# Altium integrated library Tranzistor.IntLib: 391 symbols
Pins are listed as number, name and electrical type; pins without a type are passive.

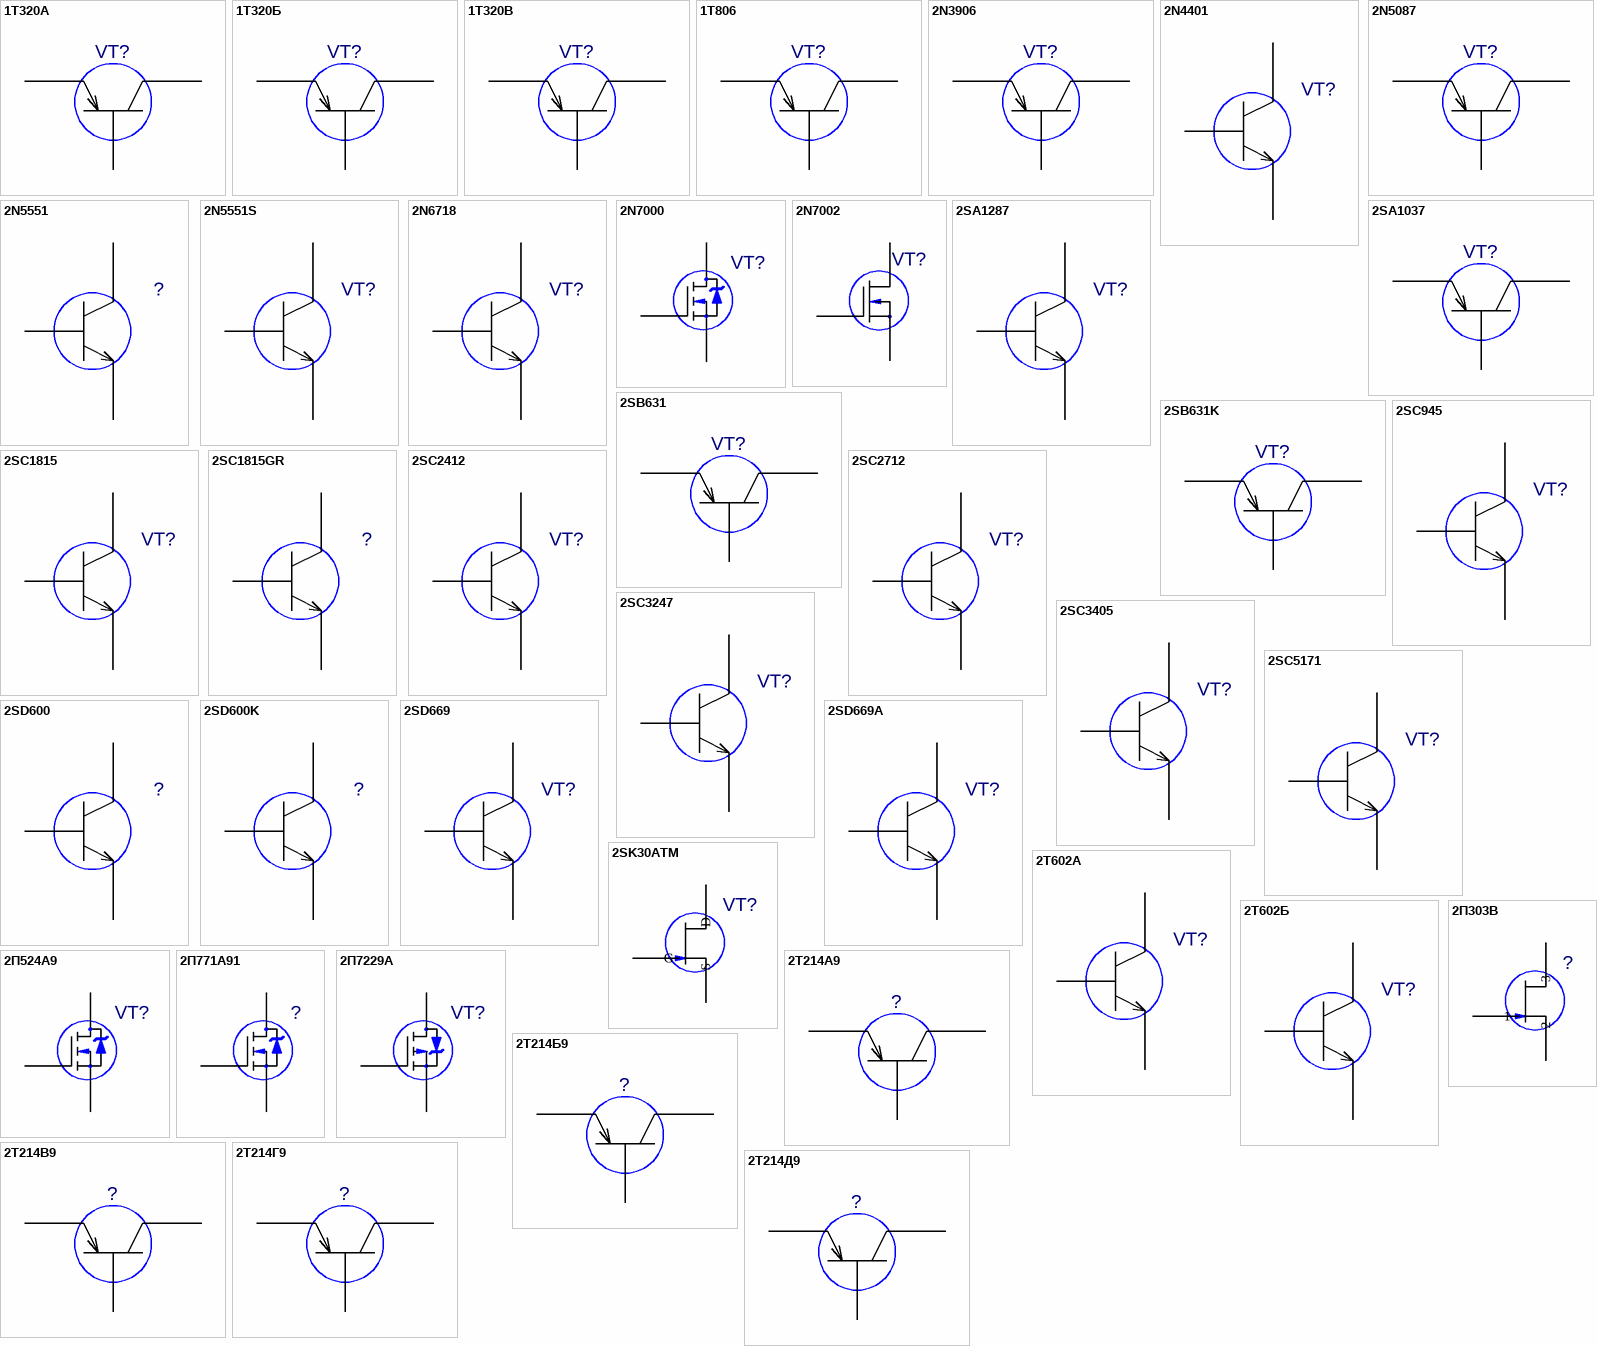
[diagram p0: symbols 1Т320А to 2Т214Д9]

## 1Т320А
designator VT?  (value not drawn)
Value: *
footprint ГТ320Б
pins: 1 E, 2 K, 3 B

## 1Т320Б
designator VT?  (value not drawn)
Value: *
footprint ГТ320Б
pins: 1 E, 2 K, 3 B

## 1Т320В
designator VT?  (value not drawn)
Value: *
footprint ГТ320Б
pins: 1 E, 2 K, 3 B

## 1Т806
designator VT?  (value not drawn)
Value: *
footprint 806A_1Т806(Primary)
pins: B, E, K

## 2N3906
designator VT?  (value not drawn)
Value: *
footprint KT26-1
pins: 1 3, 2, 3 1

## 2N4401
designator VT?  (value not drawn)
Value: *
footprint TO-92-1
pins: 1 E, 2 B, 3 K

## 2N5087
designator VT?  (value not drawn)
Value: *
footprint TO-92-3_2N5087(Primary)
pins: B, C, E

## 2N5551
designator ?  (value not drawn)
Value: *
footprint TO-92-1
pins: 1 E, 2 B, 3 K

## 2N5551S
designator VT?  (value not drawn)
Value: *
footprint SOT-23_2N5551S(Primary)
pins: 1 E, 2 B, 3 K

## 2N6718
designator VT?  (value not drawn)
Value: *
footprint TO-92-1
pins: 1 E, 2 B, 3 K

## 2N7000
designator VT?  (value not drawn)
Value: {Value}
footprint TO-92-6_2N7000(Primary)
pins: d 3, g 1, s 2

## 2N7002
designator VT?  (value not drawn)
Value: {Value}
footprint SOT-23
pins: 1 G, 2 S, 3 D

## 2SA1037
designator VT?  (value not drawn)
Value: *
footprint SOT-23
pins: 1 B, 2 E, 3 K

## 2SA1287
designator VT?  (value not drawn)
Value: *
footprint TO-92-2
pins: 1 E, 2 C, 3 B

## 2SB631
designator VT?  (value not drawn)
Value: *
footprint TO-126_2SB631(Primary)
pins: B 2, E 1, K 3

## 2SB631K
designator VT?  (value not drawn)
Value: *
footprint TO-126_2SB631K(Primary)
pins: B 2, E 1, K 3

## 2SC945
designator VT?  (value not drawn)
Value: *
footprint TO-92-2
pins: 1 E, 2 K, 3 B

## 2SC1815
designator VT?  (value not drawn)
Value: *
footprint TO-92-2
pins: 1 E, 2 C, 3 B

## 2SC1815GR
designator ?  (value not drawn)
Value: *
footprint TO-92-2
pins: 1 E, 2 K, 3 B

## 2SC2412
designator VT?  (value not drawn)
Value: *
footprint SOT-23
pins: 1 B, 2 E, 3 K

## 2SC2712
designator VT?  (value not drawn)
Value: *
footprint SOT-23
pins: 1 B, 2 E, 3 K

## 2SC3247
designator VT?  (value not drawn)
Value: *
footprint TO-92-2
pins: 1 E, 2 C, 3 B

## 2SC3405
designator VT?  (value not drawn)
Value: *
footprint DPAK
pins: 1 B, 2 K, 3 E

## 2SC5171
designator VT?  (value not drawn)
Value: *
footprint TO-220 (V)
pins: 1 B, 2 K, 3 E

## 2SD600
designator ?  (value not drawn)
Value: *
footprint TO-126_2SD600(Primary)
pins: B 2, E 1, K 3

## 2SD600K
designator ?  (value not drawn)
Value: *
footprint TO-126_2SD600K(Primary)
pins: B 2, E 1, K 3

## 2SD669
designator VT?  (value not drawn)
Value: *
footprint TO-126_2SD669(Primary)
pins: B, E, K

## 2SD669A
designator VT?  (value not drawn)
Value: *
footprint TO-126_2SD669A(Primary)
pins: B, E, K

## 2SK30ATM
designator VT?  (value not drawn)
Value: {Value}; Author: pcbdesigner.ru
footprint TO-92-6
pins: 1 S, 2 G, 3 D

## 2T602A
designator VT?  (value not drawn)
Value: *
footprint 2T602A_2T602A(Primary)
pins: B, E, K

## 2T602Б
designator VT?  (value not drawn)
Value: *
footprint 2T602A_2T602Б(Primary)
pins: B, E, K

## 2П303В
designator ?  (value not drawn)
Value: {Value}; Author: pcbdesigner.ru
footprint КП303В_2П303В(Primary)
pins: I 2, pkg hidden, S 3, Z 1

## 2П524А9
designator VT?  (value not drawn)
Value: {Value}
footprint КТ-99-1
pins: 1, 2, 3, 4 hidden

## 2П771А91
designator ?  (value not drawn)
Value: {Value}
footprint D2PAK
pins: 1, 2 3, 3 2

## 2П7229А
designator VT?  (value not drawn)
Value: {Value}
footprint TO-220 WITH TAB
pins: 1, 2 3, 3 2, 4 hidden

## 2Т214А9
designator ?  (value not drawn)
Value: *
footprint SOT-23
pins: 1 B, 2 E, 3 K

## 2Т214Б9
designator ?  (value not drawn)
Value: *
footprint SOT-23
pins: 1 B, 2 E, 3 K

## 2Т214В9
designator ?  (value not drawn)
Value: *
footprint SOT-23
pins: 1 B, 2 E, 3 K

## 2Т214Г9
designator ?  (value not drawn)
Value: *
footprint SOT-23
pins: 1 B, 2 E, 3 K

## 2Т214Д9
designator ?  (value not drawn)
Value: *
footprint SOT-23
pins: 1 B, 2 E, 3 K

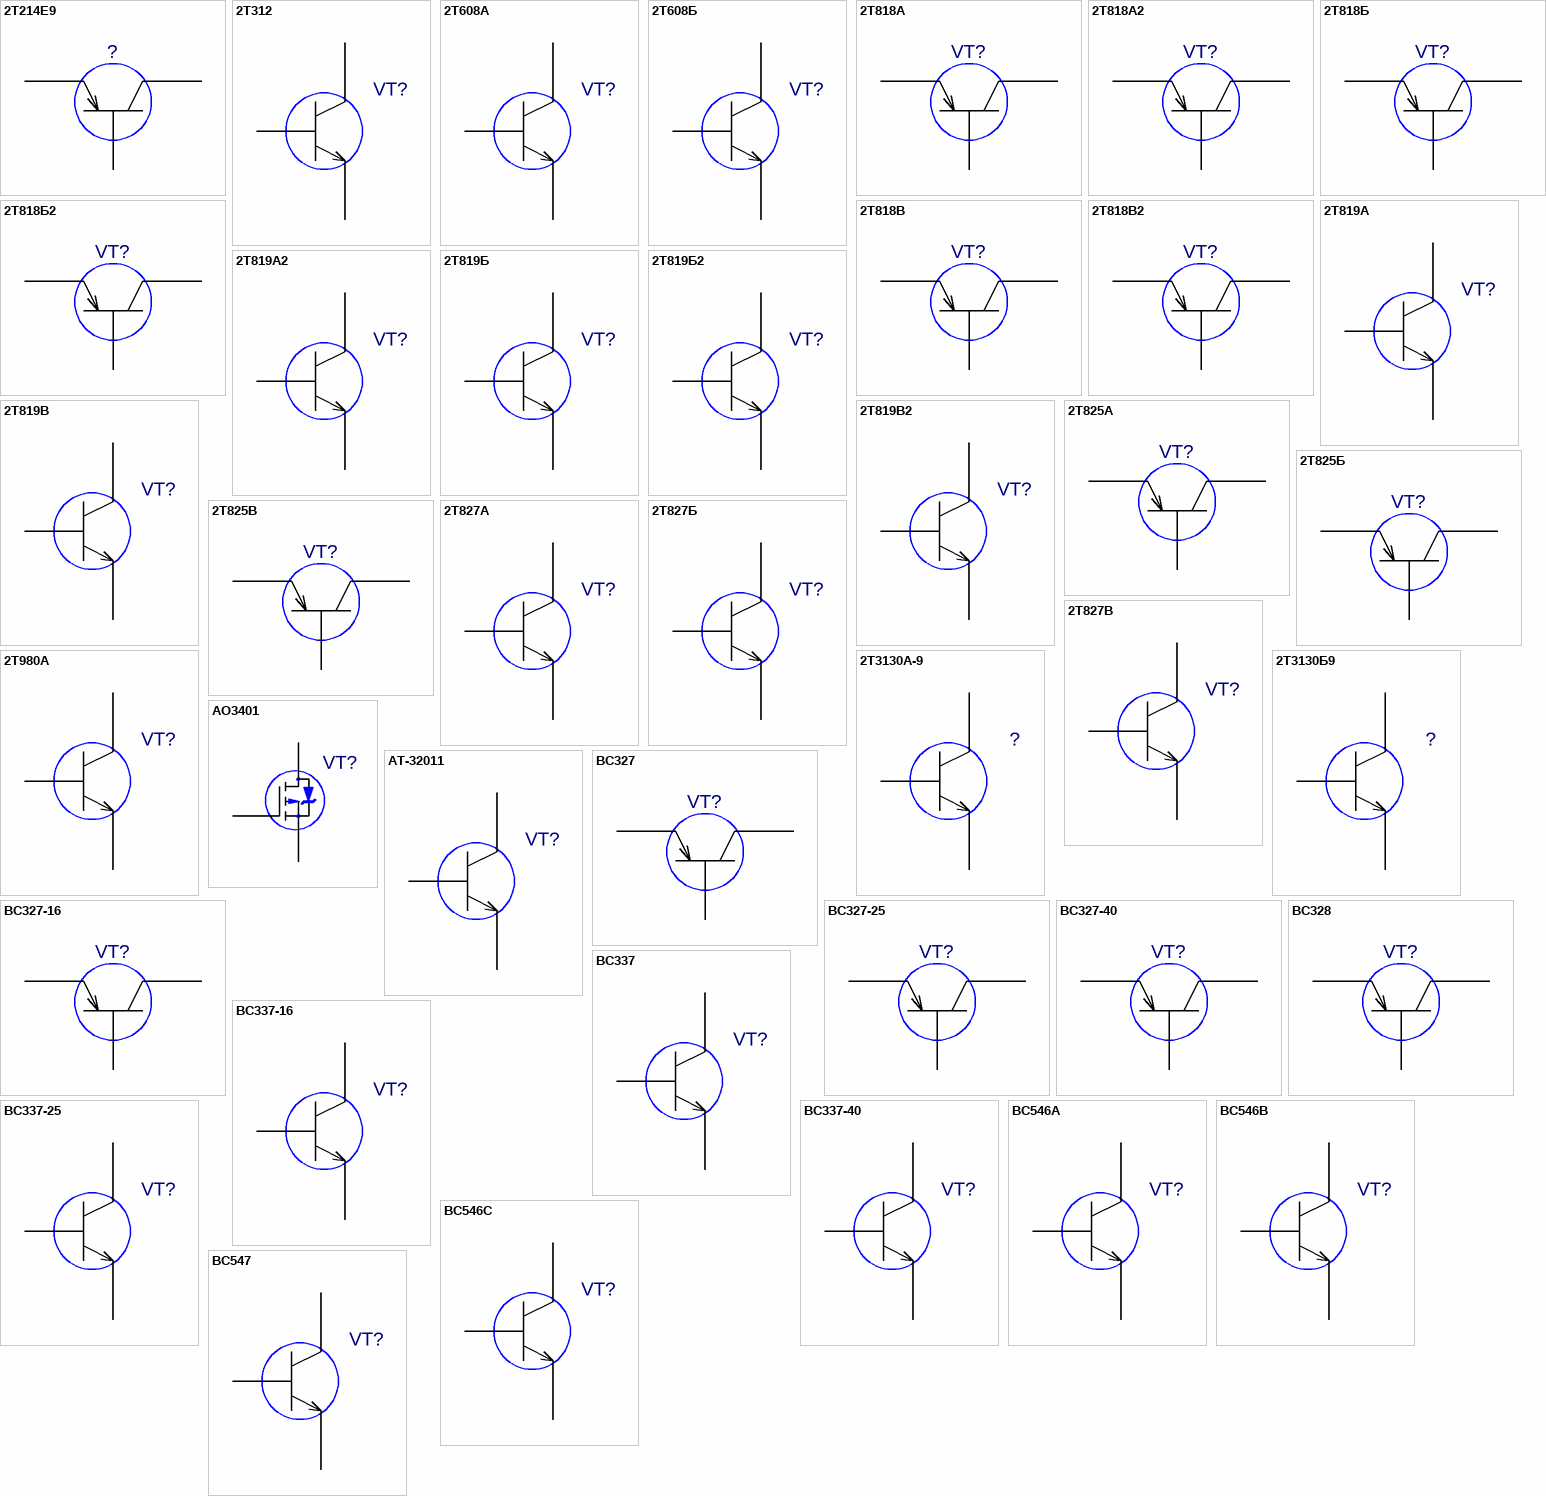
[diagram p1: symbols 2Т214Е9 to BC547]

## 2Т214Е9
designator ?  (value not drawn)
Value: *
footprint SOT-23
pins: 1 B, 2 E, 3 K

## 2Т312
designator VT?  (value not drawn)
Value: *
footprint КТ312_2Т312(Primary)
pins: B, E, K

## 2Т608А
designator VT?  (value not drawn)
Value: *
footprint КТ605_2Т608А(Primary)
pins: 1 B, 2 E, 3 K

## 2Т608Б
designator VT?  (value not drawn)
Value: *
footprint КТ605_2Т608Б(Primary)
pins: 1 B, 2 E, 3 K

## 2Т818А
designator VT?  (value not drawn)
Value: *
footprint KT-9
pins: 1 E, 2 B, 3 K, 4 hidden

## 2Т818А2
designator VT?  (value not drawn)
Value: *
footprint KT-28_2Т818А2(Primary)
pins: 1 E, 2 B, 3 K, 4 hidden

## 2Т818Б
designator VT?  (value not drawn)
Value: *
footprint KT-9
pins: 1 E, 2 B, 3 K, 4 hidden

## 2Т818Б2
designator VT?  (value not drawn)
Value: *
footprint KT-28_2Т818Б2(Primary)
pins: 1 E, 2 B, 3 K, 4 hidden

## 2Т818В
designator VT?  (value not drawn)
Value: *
footprint KT-9
pins: 1 E, 2 B, 3 K, 4 hidden

## 2Т818В2
designator VT?  (value not drawn)
Value: *
footprint KT-28_2Т818В2(Primary)
pins: 1 E, 2 B, 3 K, 4 hidden

## 2Т819А
designator VT?  (value not drawn)
Value: *
footprint KT-9_2Т819А(Primary)
pins: 4 hidden, B, E, K

## 2Т819А2
designator VT?  (value not drawn)
Value: *
footprint KT-28_2Т819А2(Primary)
pins: 2 hidden, B, E, K

## 2Т819Б
designator VT?  (value not drawn)
Value: *
footprint KT-9_2Т819Б(Primary)
pins: 4 hidden, B, E, K

## 2Т819Б2
designator VT?  (value not drawn)
Value: *
footprint KT-28_2Т819Б2(Primary)
pins: 2 hidden, B, E, K

## 2Т819В
designator VT?  (value not drawn)
Value: *
footprint KT-9_2Т819В(Primary)
pins: 4 hidden, B, E, K

## 2Т819В2
designator VT?  (value not drawn)
Value: *
footprint KT-28_2Т819В2(Primary)
pins: 2 hidden, B, E, K

## 2Т825А
designator VT?  (value not drawn)
Value: *
footprint KT-9_2Т825А(Primary)
pins: 4 hidden, B, E, K

## 2Т825Б
designator VT?  (value not drawn)
Value: *
footprint KT-9_2Т825Б(Primary)
pins: 4 hidden, B, E, K

## 2Т825В
designator VT?  (value not drawn)
Value: *
footprint KT-9_2Т825В(Primary)
pins: 4 hidden, B, E, K

## 2Т827А
designator VT?  (value not drawn)
Value: *
footprint KT-9_2Т827А(Primary)
pins: 4 hidden, B, E, K

## 2Т827Б
designator VT?  (value not drawn)
Value: *
footprint KT-9_2Т827Б(Primary)
pins: 4 hidden, B, E, K

## 2Т827В
designator VT?  (value not drawn)
Value: *
footprint KT-9_2Т827В(Primary)
pins: 4 hidden, B, E, K

## 2Т980А
designator VT?  (value not drawn)
Value: *
footprint KT-16-2_2Т980А(Primary)
pins: 5 hidden, B, E1 E, E2 hidden, K

## 2Т3130А-9
designator ?  (value not drawn)
Value: *
footprint SOT-23
pins: 1 B, 2 E, 3 K

## 2Т3130Б9
designator ?  (value not drawn)
Value: *
footprint SOT-23
pins: 1 B, 2 E, 3 K

## AO3401
designator VT?  (value not drawn)
Value: {Value}
footprint SOT-23
pins: 1, 2, 3

## AT-32011
designator VT?  (value not drawn)
Value: *
footprint SOT-143_AT-32011(Primary)
pins: B, E1 E, E2 hidden, K

## BC327
designator VT?  (value not drawn)
Value: *
footprint TO-92-4_BC327(Primary)
pins: B 2, C 3, E 1

## BC327-16
designator VT?  (value not drawn)
Value: *
footprint TO-92-4_BC327-16(Primary)
pins: B 2, C 3, E 1

## BC327-25
designator VT?  (value not drawn)
Value: *
footprint TO-92-4_BC327-25(Primary)
pins: B 2, C 3, E 1

## BC327-40
designator VT?  (value not drawn)
Value: *
footprint TO-92-4_BC327-40(Primary)
pins: B 2, C 3, E 1

## BC328
designator VT?  (value not drawn)
Value: *
footprint TO-92(2002)
pins: 1 E, 2 B, 3 K

## BC337
designator VT?  (value not drawn)
Value: *
footprint TO-92-4
pins: 1 K, 2 B, 3 E

## BC337-16
designator VT?  (value not drawn)
Value: *
footprint KT26-1_BC337-16(Primary)
pins: B, E, K

## BC337-25
designator VT?  (value not drawn)
Value: *
footprint KT26-1_BC337-25(Primary)
pins: B, E, K

## BC337-40
designator VT?  (value not drawn)
Value: *
footprint KT26-1_BC337-40(Primary)
pins: B, E, K

## BC546A
designator VT?  (value not drawn)
Value: *
footprint TO-92-4_BC546A(Primary)
pins: 1 E, 2 B, 3 K

## BC546B
designator VT?  (value not drawn)
Value: *
footprint TO-92-4_BC546B(Primary)
pins: 1 E, 2 B, 3 K

## BC546C
designator VT?  (value not drawn)
Value: *
footprint TO-92-4_BC546C(Primary)
pins: B 2, C 3, E 1

## BC547
designator VT?  (value not drawn)
Value: *
footprint TO-92-4_BC547(Primary)
pins: 1 E, 2 B, 3 K

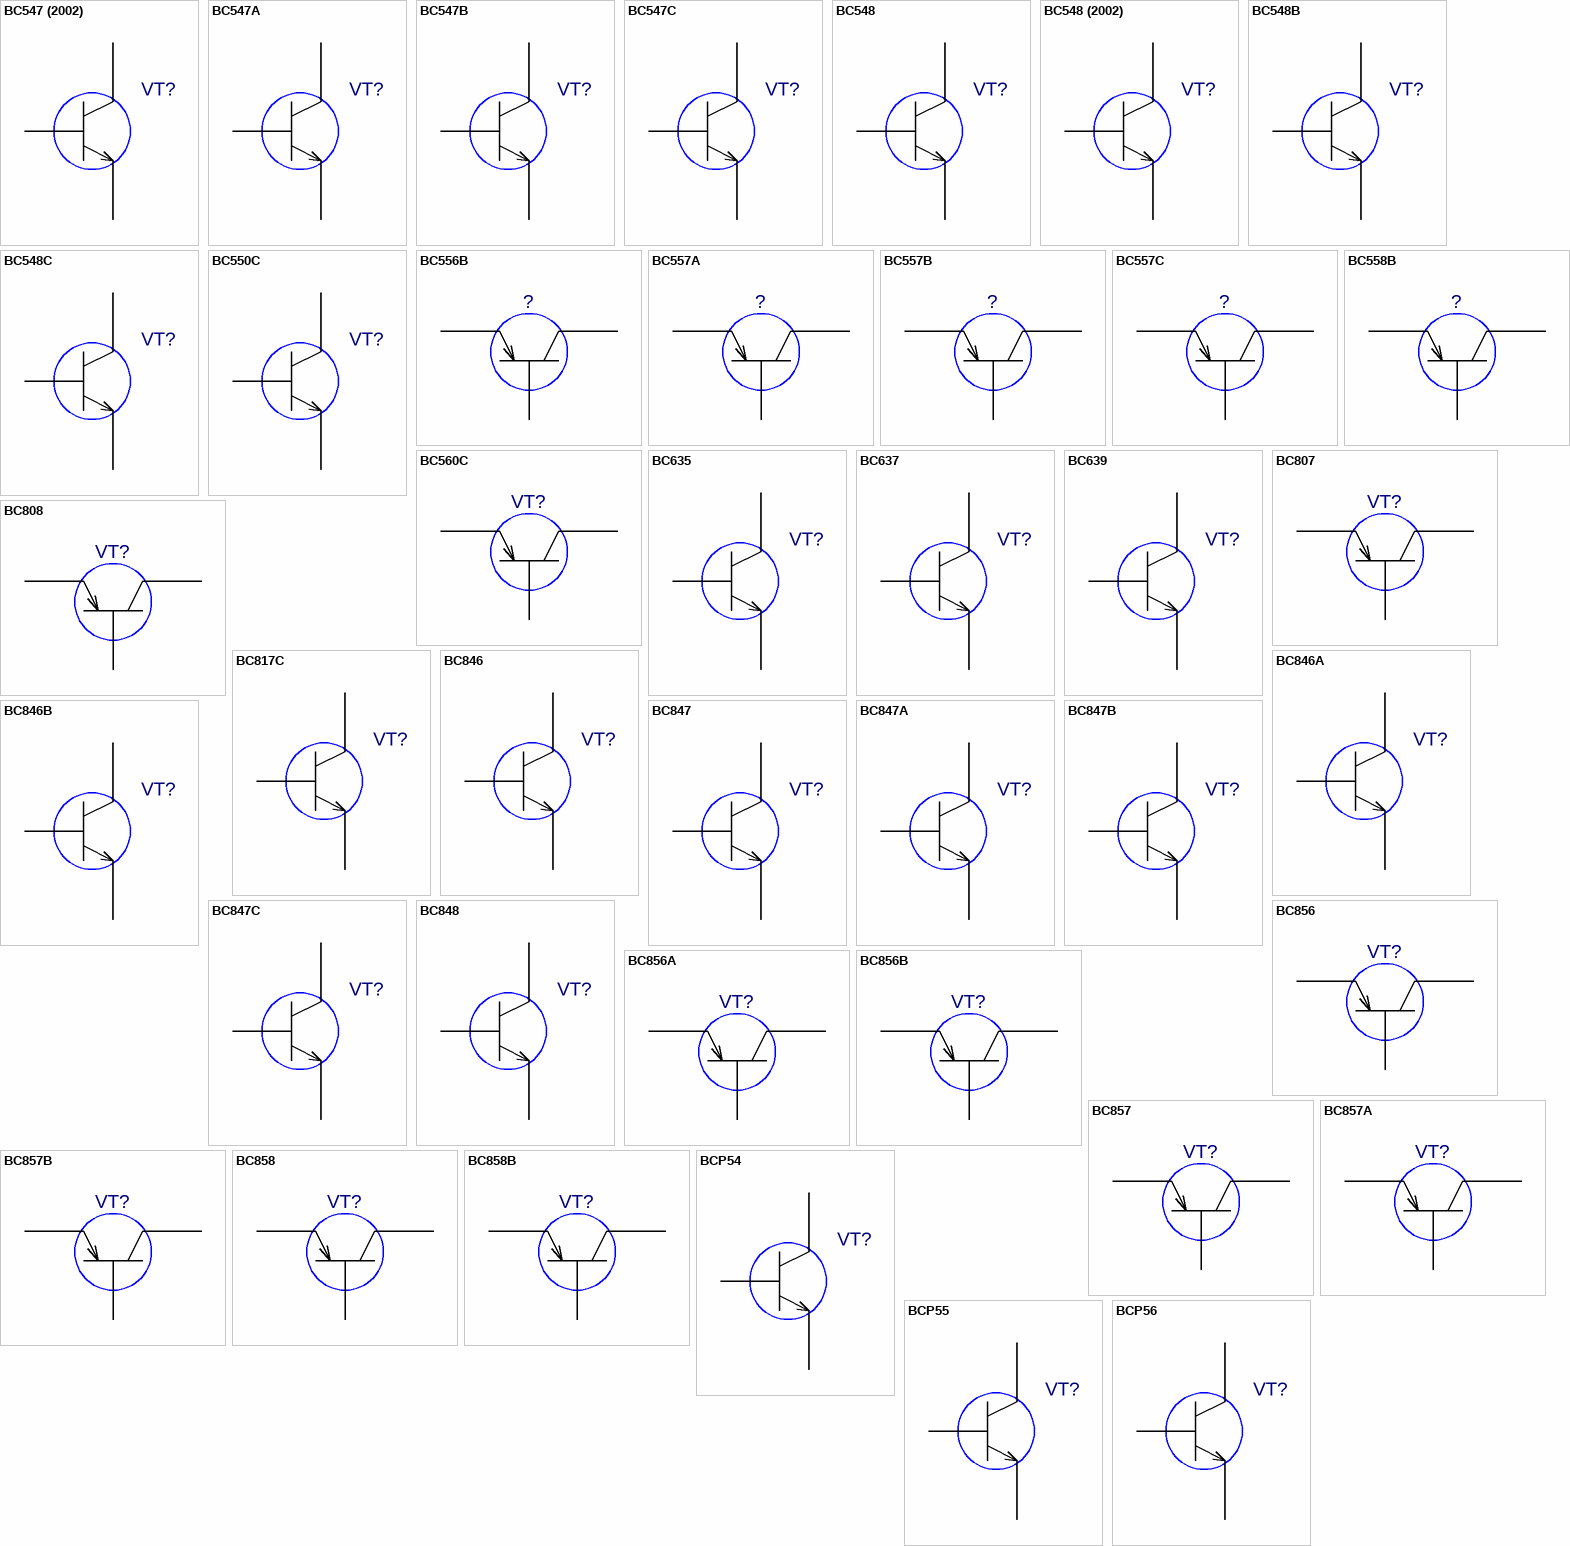
[diagram p2: symbols BC547 (2002) to BCP56]

## BC547 (2002)
designator VT?  (value not drawn)
Value: *
footprint KT26-1 (2002)
pins: 1 K, 2 B, 3 E

## BC547A
designator VT?  (value not drawn)
Value: *
footprint TO-92-4_BC547A(Primary)
pins: B 2, C 3, E 1

## BC547B
designator VT?  (value not drawn)
Value: *
footprint TO-92-4_BC547B(Primary)
pins: 1 E, 2 B, 3 K

## BC547C
designator VT?  (value not drawn)
Value: *
footprint TO-92-4_BC547C(Primary)
pins: 1 E, 2 B, 3 K

## BC548
designator VT?  (value not drawn)
Value: *
footprint TO-92-4_BC548(Primary)
pins: B 2, C 3, E 1

## BC548 (2002)
designator VT?  (value not drawn)
Value: *
footprint KT26-1 (2002)
pins: 1 K, 2 B, 3 E

## BC548B
designator VT?  (value not drawn)
Value: *
footprint TO-92-4_BC548B(Primary)
pins: B 2, C 3, E 1

## BC548C
designator VT?  (value not drawn)
Value: *
footprint TO-92-4_BC548C(Primary)
pins: B 2, C 3, E 1

## BC550C
designator VT?  (value not drawn)
Value: *
footprint TO-92-4_BC550C(Primary)
pins: B 2, C 3, E 1

## BC556B
designator ?  (value not drawn)
Value: *
footprint TO-92-4_BC556B(Primary)
pins: B, C, E

## BC557A
designator ?  (value not drawn)
Value: *
footprint TO-92-4_BC557A(Primary)
pins: B, C, E

## BC557B
designator ?  (value not drawn)
Value: *
footprint TO-92-4_BC557B(Primary)
pins: B, C, E

## BC557C
designator ?  (value not drawn)
Value: *
footprint TO-92-4_BC557C(Primary)
pins: B, C, E

## BC558B
designator ?  (value not drawn)
Value: *
footprint TO-92-4_BC558B(Primary)
pins: B, C, E

## BC560C
designator VT?  (value not drawn)
Value: *
footprint TO-92-4_BC560C(Primary)
pins: B, C, E

## BC635
designator VT?  (value not drawn)
Value: *
footprint TO-92-2
pins: 1 E, 2 K, 3 B

## BC637
designator VT?  (value not drawn)
Value: *
footprint TO-92-2
pins: 1 E, 2 K, 3 B

## BC639
designator VT?  (value not drawn)
Value: *
footprint TO-92-2
pins: 1 E, 2 K, 3 B

## BC807
designator VT?  (value not drawn)
Value: *
footprint SOT-23
pins: 1 B, 2 E, 3 K

## BC808
designator VT?  (value not drawn)
Value: *
footprint SOT-23
pins: 1 B, 2 E, 3 K

## BC817C
designator VT?  (value not drawn)
Value: *
footprint SOT-23
pins: 1 B, 2 E, 3 K

## BC846
designator VT?  (value not drawn)
Value: *
footprint SOT-23
pins: 1 B, 2 E, 3 K

## BC846A
designator VT?  (value not drawn)
Value: *
footprint SOT-23
pins: 1 B, 2 E, 3 K

## BC846B
designator VT?  (value not drawn)
Value: *
footprint SOT-23
pins: 1 B, 2 E, 3 K

## BC847
designator VT?  (value not drawn)
Value: *
footprint SOT-23
pins: 1 B, 2 E, 3 K

## BC847A
designator VT?  (value not drawn)
Value: *
footprint SOT-23
pins: 1 B, 2 E, 3 K

## BC847B
designator VT?  (value not drawn)
Value: *
footprint SOT-23
pins: 1 B, 2 E, 3 K

## BC847C
designator VT?  (value not drawn)
Value: *
footprint SOT-23
pins: 1 B, 2 E, 3 K

## BC848
designator VT?  (value not drawn)
Value: *
footprint SOT-23
pins: 1 B, 2 E, 3 K

## BC856
designator VT?  (value not drawn)
Value: *
footprint SOT-23
pins: 1 B, 2 E, 3 K

## BC856A
designator VT?  (value not drawn)
Value: *
footprint SOT-23
pins: 1 B, 2 E, 3 K

## BC856B
designator VT?  (value not drawn)
Value: *
footprint SOT-23
pins: 1 B, 2 E, 3 K

## BC857
designator VT?  (value not drawn)
Value: *
footprint SOT-23
pins: 1 B, 2 E, 3 K

## BC857A
designator VT?  (value not drawn)
Value: *
footprint SOT-23
pins: 1 B, 2 E, 3 K

## BC857B
designator VT?  (value not drawn)
Value: *
footprint SOT-23
pins: 1 B, 2 E, 3 K

## BC858
designator VT?  (value not drawn)
Value: *
footprint SOT-23
pins: 1 B, 2 E, 3 K

## BC858B
designator VT?  (value not drawn)
Value: *
footprint SOT-23
pins: 1 B, 2 E, 3 K

## BCP54
designator VT?  (value not drawn)
Value: *
footprint SOT-223
pins: 1 B, 2 K, 3 E, 4 hidden

## BCP55
designator VT?  (value not drawn)
Value: *
footprint SOT-223
pins: 1 B, 2 K, 3 E, 4 hidden

## BCP56
designator VT?  (value not drawn)
Value: *
footprint SOT-223
pins: 1 B, 2 K, 3 E, 4 hidden

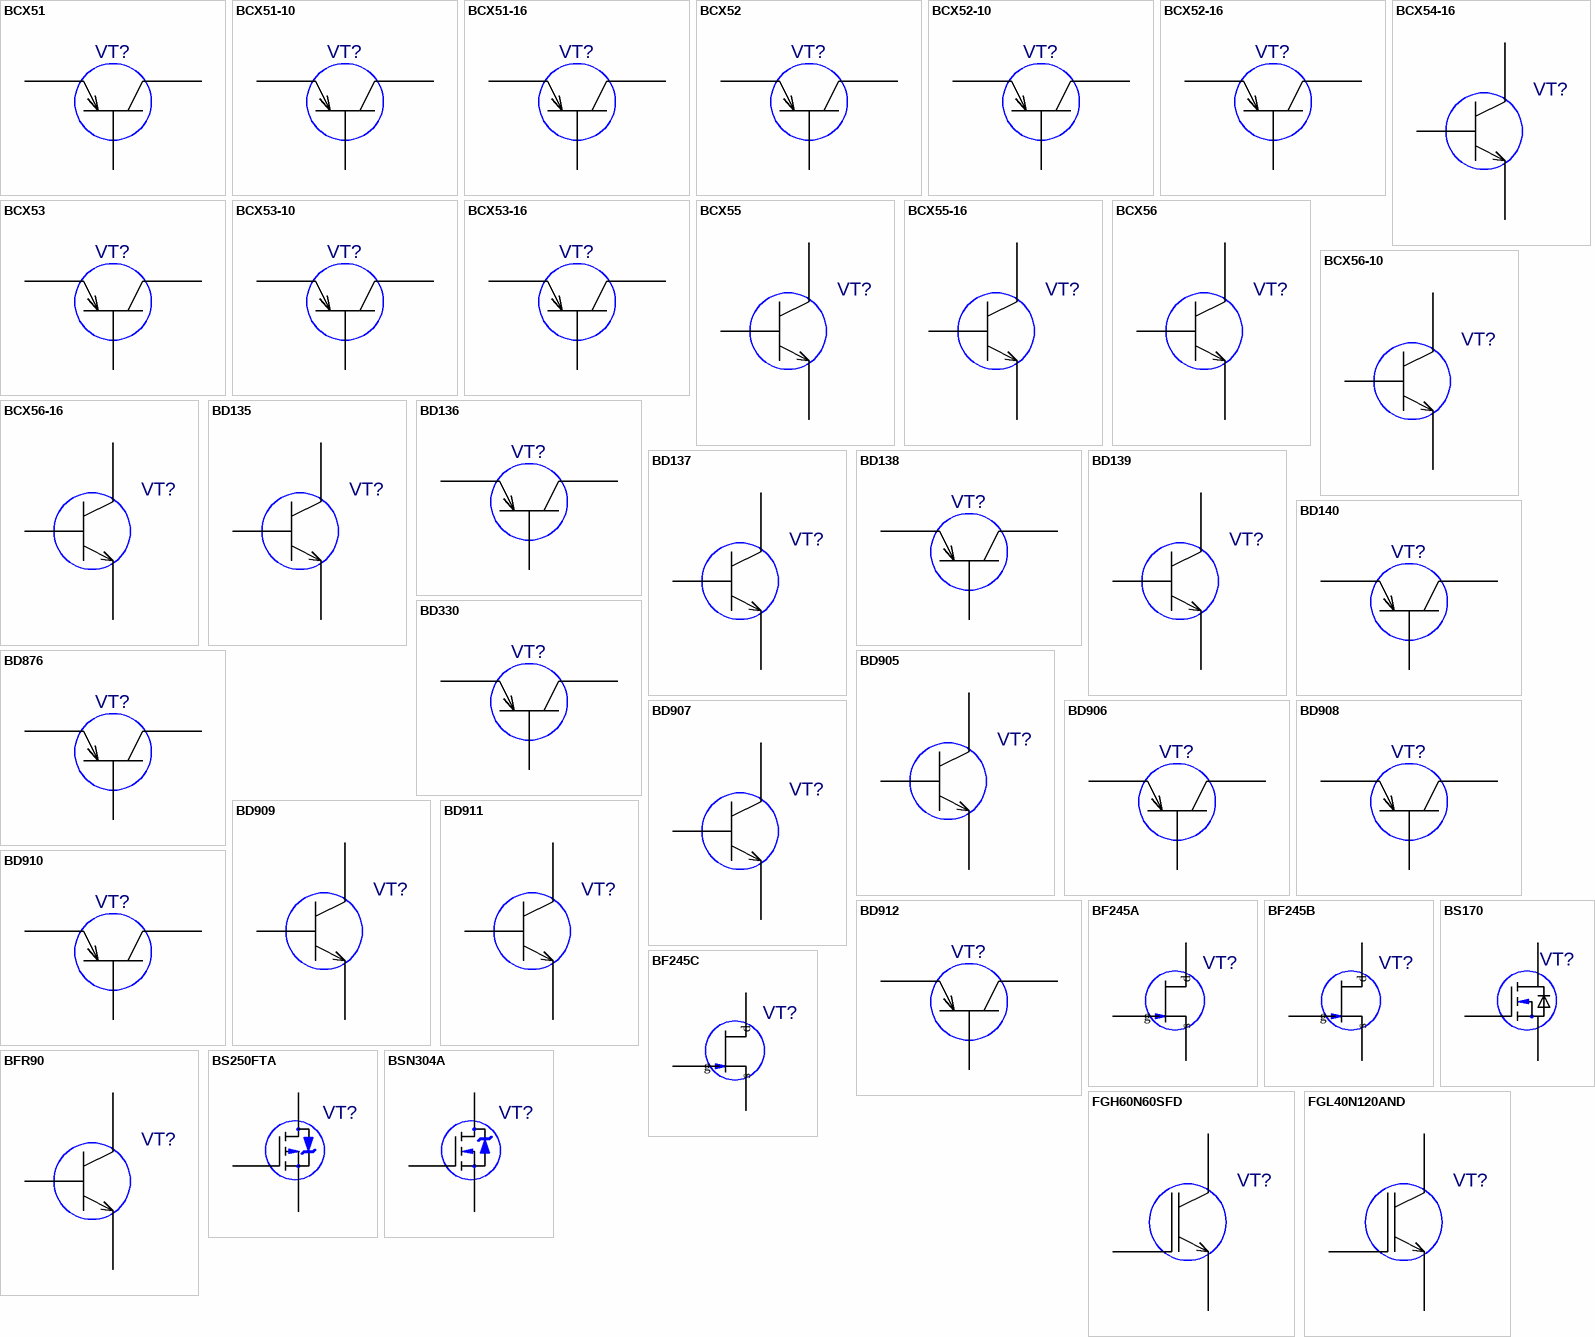
[diagram p3: symbols BCX51 to FGL40N120AND]

## BCX51
designator VT?  (value not drawn)
Value: *
footprint SOT89
pins: 1 E, 2 K, 3 B, 4 hidden

## BCX51-10
designator VT?  (value not drawn)
Value: *
footprint SOT89
pins: 1 E, 2 K, 3 B, 4 hidden

## BCX51-16
designator VT?  (value not drawn)
Value: *
footprint SOT89
pins: 1 E, 2 K, 3 B, 4 hidden

## BCX52
designator VT?  (value not drawn)
Value: *
footprint SOT89
pins: 1 E, 2 K, 3 B, 4 hidden

## BCX52-10
designator VT?  (value not drawn)
Value: *
footprint SOT89
pins: 1 E, 2 K, 3 B, 4 hidden

## BCX52-16
designator VT?  (value not drawn)
Value: *
footprint SOT89
pins: 1 E, 2 K, 3 B, 4 hidden

## BCX53
designator VT?  (value not drawn)
Value: *
footprint SOT89
pins: 1 E, 2 K, 3 B, 4 hidden

## BCX53-10
designator VT?  (value not drawn)
Value: *
footprint SOT89
pins: 1 E, 2 K, 3 B, 4 hidden

## BCX53-16
designator VT?  (value not drawn)
Value: *
footprint SOT89
pins: 1 E, 2 K, 3 B, 4 hidden

## BCX54-16
designator VT?  (value not drawn)
Value: *
footprint SOT89
pins: 1 B, 2 C, 3 E, 4 hidden

## BCX55
designator VT?  (value not drawn)
Value: *
footprint SOT89
pins: 1 B, 2 C, 3 E, 4 hidden

## BCX55-16
designator VT?  (value not drawn)
Value: *
footprint SOT89
pins: 1 B, 2 C, 3 E, 4 hidden

## BCX56
designator VT?  (value not drawn)
Value: *
footprint SOT89
pins: 1 B, 2 C, 3 E, 4 hidden

## BCX56-10
designator VT?  (value not drawn)
Value: *
footprint SOT89
pins: 1 B, 2 C, 3 E, 4 hidden

## BCX56-16
designator VT?  (value not drawn)
Value: *
footprint SOT89
pins: 1 B, 2 C, 3 E, 4 hidden

## BD135
designator VT?  (value not drawn)
Value: *
footprint KT-27_KT27A
footprint KT-27_KT27R
footprint KT-27_KT27R1
footprint KT-27_Primary
pins: 1 E, 2 K, 3 B

## BD136
designator VT?  (value not drawn)
Value: *
footprint TO-126_BD136(Primary)
pins: B K, E, K B

## BD137
designator VT?  (value not drawn)
Value: *
footprint KT-27_KT27A
footprint KT-27_KT27R
footprint KT-27_KT27R1
footprint KT-27_Primary
pins: 1 E, 2 K, 3 B

## BD138
designator VT?  (value not drawn)
Value: *
footprint TO-126_BD138(Primary)
pins: B K, E, K B

## BD139
designator VT?  (value not drawn)
Value: *
footprint TO-225AA_BD139(Primary)
pins: B, E, K

## BD140
designator VT?  (value not drawn)
Value: *
footprint TO-126_BD140(Primary)
pins: B K, E, K B

## BD330
designator VT?  (value not drawn)
Value: *
footprint TO-126_BD330(Primary)
pins: B 2, E 1, K 3

## BD876
designator VT?  (value not drawn)
Value: *
footprint KT-27_KT27A
footprint KT-27_KT27R
footprint KT-27_KT27R1
footprint KT-27_Primary
pins: 1 E, 2 K, 3 B

## BD905
designator VT?  (value not drawn)
Value: *
footprint TO220-AB-VERT
pins: 1 B, 2 K, 3 E

## BD906
designator VT?  (value not drawn)
Value: *
footprint TO220-AB-VERT
pins: 1 B, 2 K, 3 E

## BD907
designator VT?  (value not drawn)
Value: *
footprint TO220-AB-VERT
pins: 1 B, 2 K, 3 E

## BD908
designator VT?  (value not drawn)
Value: *
footprint TO220-AB-VERT
pins: 1 B, 2 K, 3 E

## BD909
designator VT?  (value not drawn)
Value: *
footprint TO220-AB-VERT
pins: 1 B, 2 K, 3 E

## BD910
designator VT?  (value not drawn)
Value: *
footprint TO220-AB-VERT
pins: 1 B, 2 K, 3 E

## BD911
designator VT?  (value not drawn)
Value: *
footprint TO220-AB-VERT
pins: 1 B, 2 K, 3 E

## BD912
designator VT?  (value not drawn)
Value: *
footprint TO220-AB-VERT
pins: 1 B, 2 K, 3 E

## BF245A
designator VT?  (value not drawn)
Value: {Value}; Author: pcbdesigner.ru
footprint TO-92-5_BF245A(Primary)
pins: d, g, s

## BF245B
designator VT?  (value not drawn)
Value: {Value}; Author: pcbdesigner.ru
footprint TO-92-5_BF245B(Primary)
pins: d, g, s

## BF245C
designator VT?  (value not drawn)
Value: {Value}; Author: pcbdesigner.ru
footprint TO-92-5_BF245C(Primary)
pins: d, g, s

## BFR90
designator VT?  (value not drawn)
Value: *
footprint TO-50
pins: 1 K, 2 E, 3 B

## BS170
designator VT?  (value not drawn)
Value: {Value}
footprint TO-92(2002)
pins: 1 D, 2 G, 3 S

## BS250FTA
designator VT?  (value not drawn)
Value: {Value}
footprint SOT-23
pins: 1 G, 2 S, 3 D

## BSN304A
designator VT?  (value not drawn)
Value: {Value}
footprint TO-92-8_2_BSN304A(Primary)
pins: D 3, G 1, S 2

## FGH60N60SFD
designator VT?  (value not drawn)
Value: *
footprint TO-247 (V)
pins: 1 G, 2 C, 3 E

## FGL40N120AND
designator VT?  (value not drawn)
Value: *
footprint TO-264
pins: 1 G, 2 C, 3 E

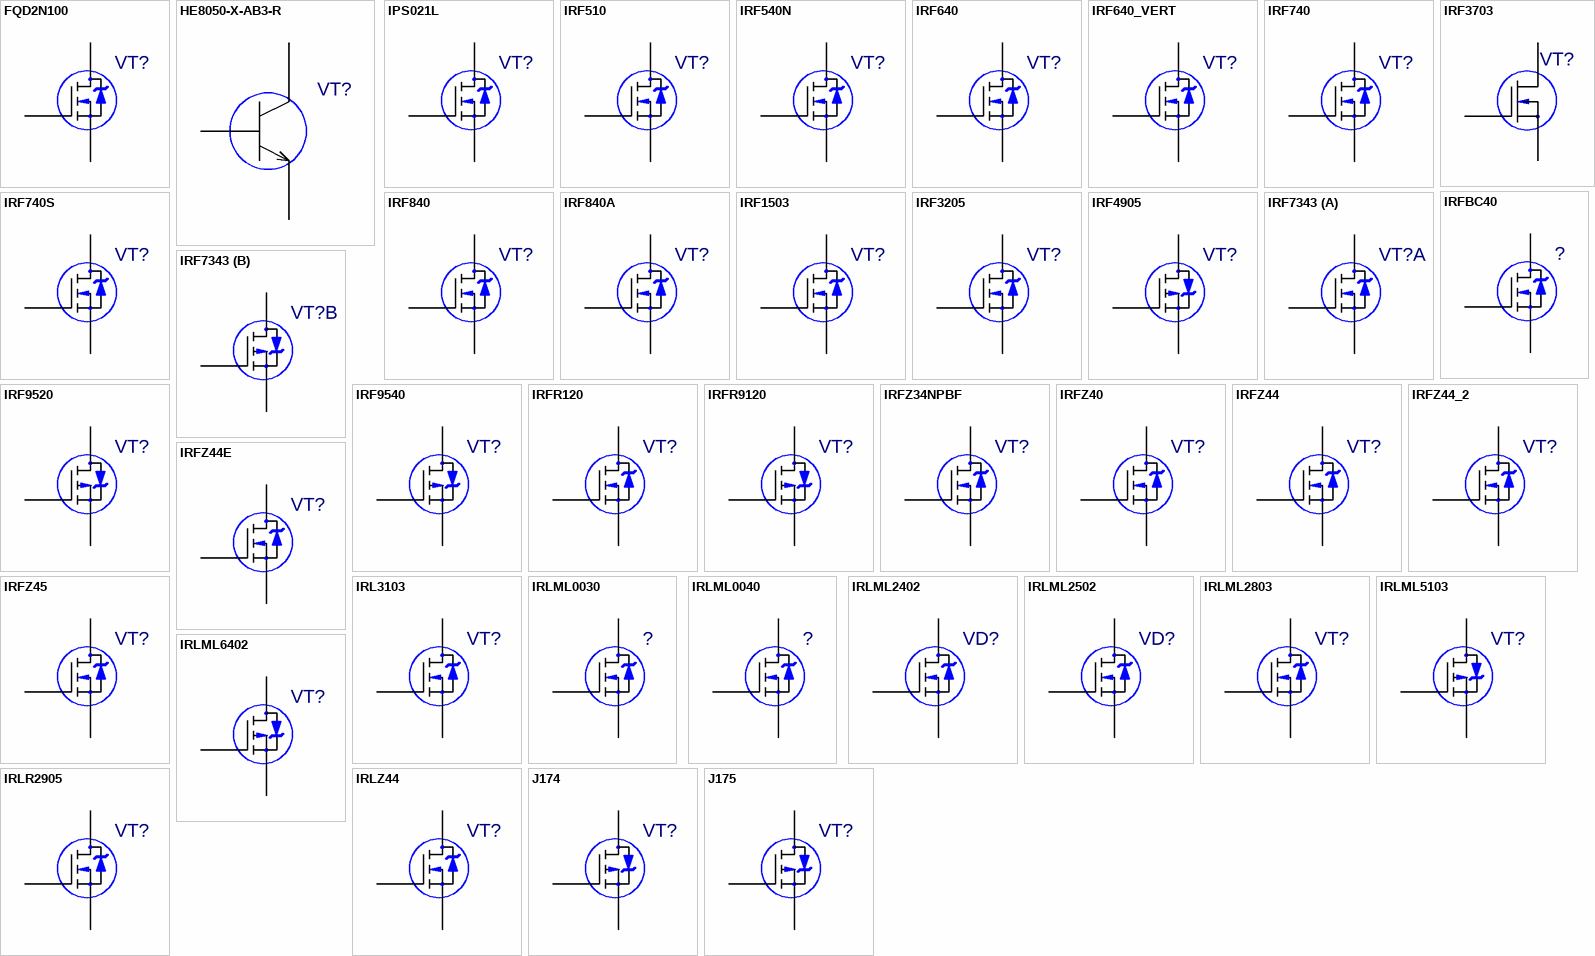
[diagram p4: symbols FQD2N100 to J175]

## FQD2N100
designator VT?  (value not drawn)
Value: {Value}
footprint DPAK
pins: 1, 2 3, 3 2

## HE8050-X-AB3-R
designator VT?  (value not drawn)
Value: *
footprint SOT89
pins: 1 B, 2 K, 3 E, 4 hidden

## IPS021L
designator VT?  (value not drawn)
Value: {Value}
footprint SOT-223
pins: 1, 2 3, 3 2, 4 hidden

## IRF510
designator VT?  (value not drawn)
Value: {Value}
footprint TO-220 WITH TAB
pins: 1, 2 3, 3 2, 4 hidden

## IRF540N
designator VT?  (value not drawn)
Value: {Value}
footprint TO-220AB_Primary
footprint TO-220AB_SMD
footprint TO-220AB_Vert
pins: 1 G, 2 D, 3 S

## IRF640
designator VT?  (value not drawn)
Value: {Value}
footprint TO-220AB_Primary
footprint TO-220AB_SMD
footprint TO-220AB_Vert
pins: 1 G, 2 D, 3 S

## IRF640_VERT
designator VT?  (value not drawn)
Value: {Value}
footprint TO220-AB-VERT
pins: 1 G, 2 D, 3 S

## IRF740
designator VT?  (value not drawn)
Value: {Value}
footprint TO220-AB-VERT
pins: 1, 2 3, 3 2

## IRF740S
designator VT?  (value not drawn)
Value: {Value}
footprint D2PAK
pins: 1, 2 3, 3 2

## IRF840
designator VT?  (value not drawn)
Value: {Value}
footprint TO-220AB_Primary
footprint TO-220AB_SMD
footprint TO-220AB_Vert
pins: 1 G, 2 D, 3 S

## IRF840A
designator VT?  (value not drawn)
Value: {Value}
footprint TO220-AB-VERT
pins: 1, 2 3, 3 2

## IRF1503
designator VT?  (value not drawn)
Value: {Value}
footprint TO-220AB_Primary
footprint TO-220AB_SMD
footprint TO-220AB_Vert
pins: 1 G, 2 D, 3 S

## IRF3205
designator VT?  (value not drawn)
Value: {Value}
footprint TO220-AB-VERT
pins: 1, 2 3, 3 2

## IRF3703
designator VT?  (value not drawn)
Value: {Value}
footprint TO220-AB-VERT
pins: 1 G, 2 D, 3 S

## IRF4905
designator VT?  (value not drawn)
Value: {Value}
footprint TO-220AB_Primary
footprint TO-220AB_SMD
footprint TO-220AB_Vert
pins: 1, 2 3, 3 2

## IRF7343
designator VT?  (value not drawn)
Value: {Value}
footprint SO-8
pins on every part: 6 hidden, 8 hidden
part A pins: 1 2, 2 1, 7 3
part B pins: 3 2, 4 1, 5 3

## IRF9520
designator VT?  (value not drawn)
Value: {Value}
footprint TO-220AB_Primary
footprint TO-220AB_SMD
footprint TO-220AB_Vert
pins: 1 G, 2 D, 3 S

## IRF9540
designator VT?  (value not drawn)
Value: {Value}
footprint TO-220AB_Primary
footprint TO-220AB_SMD
footprint TO-220AB_Vert
pins: 1 G, 2 D, 3 S

## IRFBC40
designator ?  (value not drawn)
Value: {Value}
footprint TO220-AB-VERT
pins: 1, 2 3, 3 2

## IRFR120
designator VT?  (value not drawn)
Value: {Value}
footprint DPAK
pins: 1, 2 3, 3 2

## IRFR9120
designator VT?  (value not drawn)
Value: {Value}
footprint DPAK
pins: 1, 2 3, 3 2

## IRFZ34NPBF
designator VT?  (value not drawn)
Value: {Value}
footprint TO-220AB_Primary
footprint TO-220AB_SMD
footprint TO-220AB_Vert
pins: 1, 2 3, 3 2

## IRFZ40
designator VT?  (value not drawn)
Value: {Value}
footprint TO220-AB-VERT
pins: 1, 2 3, 3 2

## IRFZ44
designator VT?  (value not drawn)
Value: {Value}
footprint TO220-AB-VERT
pins: 1, 2 3, 3 2

## IRFZ44_2
designator VT?  (value not drawn)
Value: {Value}
footprint TO-220AB_Primary
footprint TO-220AB_SMD
footprint TO-220AB_Vert
pins: 1, 2 3, 3 2

## IRFZ44E
designator VT?  (value not drawn)
Value: {Value}
footprint TO220-AB-VERT
pins: 1, 2 3, 3 2

## IRFZ45
designator VT?  (value not drawn)
Value: {Value}
footprint TO220-AB-VERT
pins: 1, 2 3, 3 2

## IRL3103
designator VT?  (value not drawn)
Value: {Value}
footprint TO-220 WITH TAB
pins: 1, 2 3, 3 2, 4 hidden

## IRLML0030
designator ?  (value not drawn)
Value: {Value}
footprint SOT-23
pins: 1, 2, 3

## IRLML0040
designator ?  (value not drawn)
Value: {Value}
footprint SOT-23
pins: 1, 2, 3

## IRLML2402
designator VD?  (value not drawn)
Value: {Value}
footprint SOT-23
pins: 1, 2, 3

## IRLML2502
designator VD?  (value not drawn)
Value: {Value}
footprint SOT-23
pins: 1, 2, 3

## IRLML2803
designator VT?  (value not drawn)
Value: {Value}
footprint SOT-23
pins: 1 G, 2 S, 3 D

## IRLML5103
designator VT?  (value not drawn)
Value: {Value}
footprint SOT-23
pins: 1 G, 2 S, 3 D

## IRLML6402
designator VT?  (value not drawn)
Value: {Value}
footprint SOT-23
pins: 1 G, 2 S, 3 D

## IRLR2905
designator VT?  (value not drawn)
Value: {Value}
footprint TO-251AA_IRLR2905(Primary)
pins: D, G, S

## IRLZ44
designator VT?  (value not drawn)
Value: {Value}
footprint TO220-AB-VERT
pins: 1, 2 3, 3 2

## J174
designator VT?  (value not drawn)
Value: {Value}
footprint TO-92-8_J174(Primary)
pins: D 3, G 1, S 2

## J175
designator VT?  (value not drawn)
Value: {Value}
footprint TO-92-8_J175(Primary)
pins: D 3, G 1, S 2

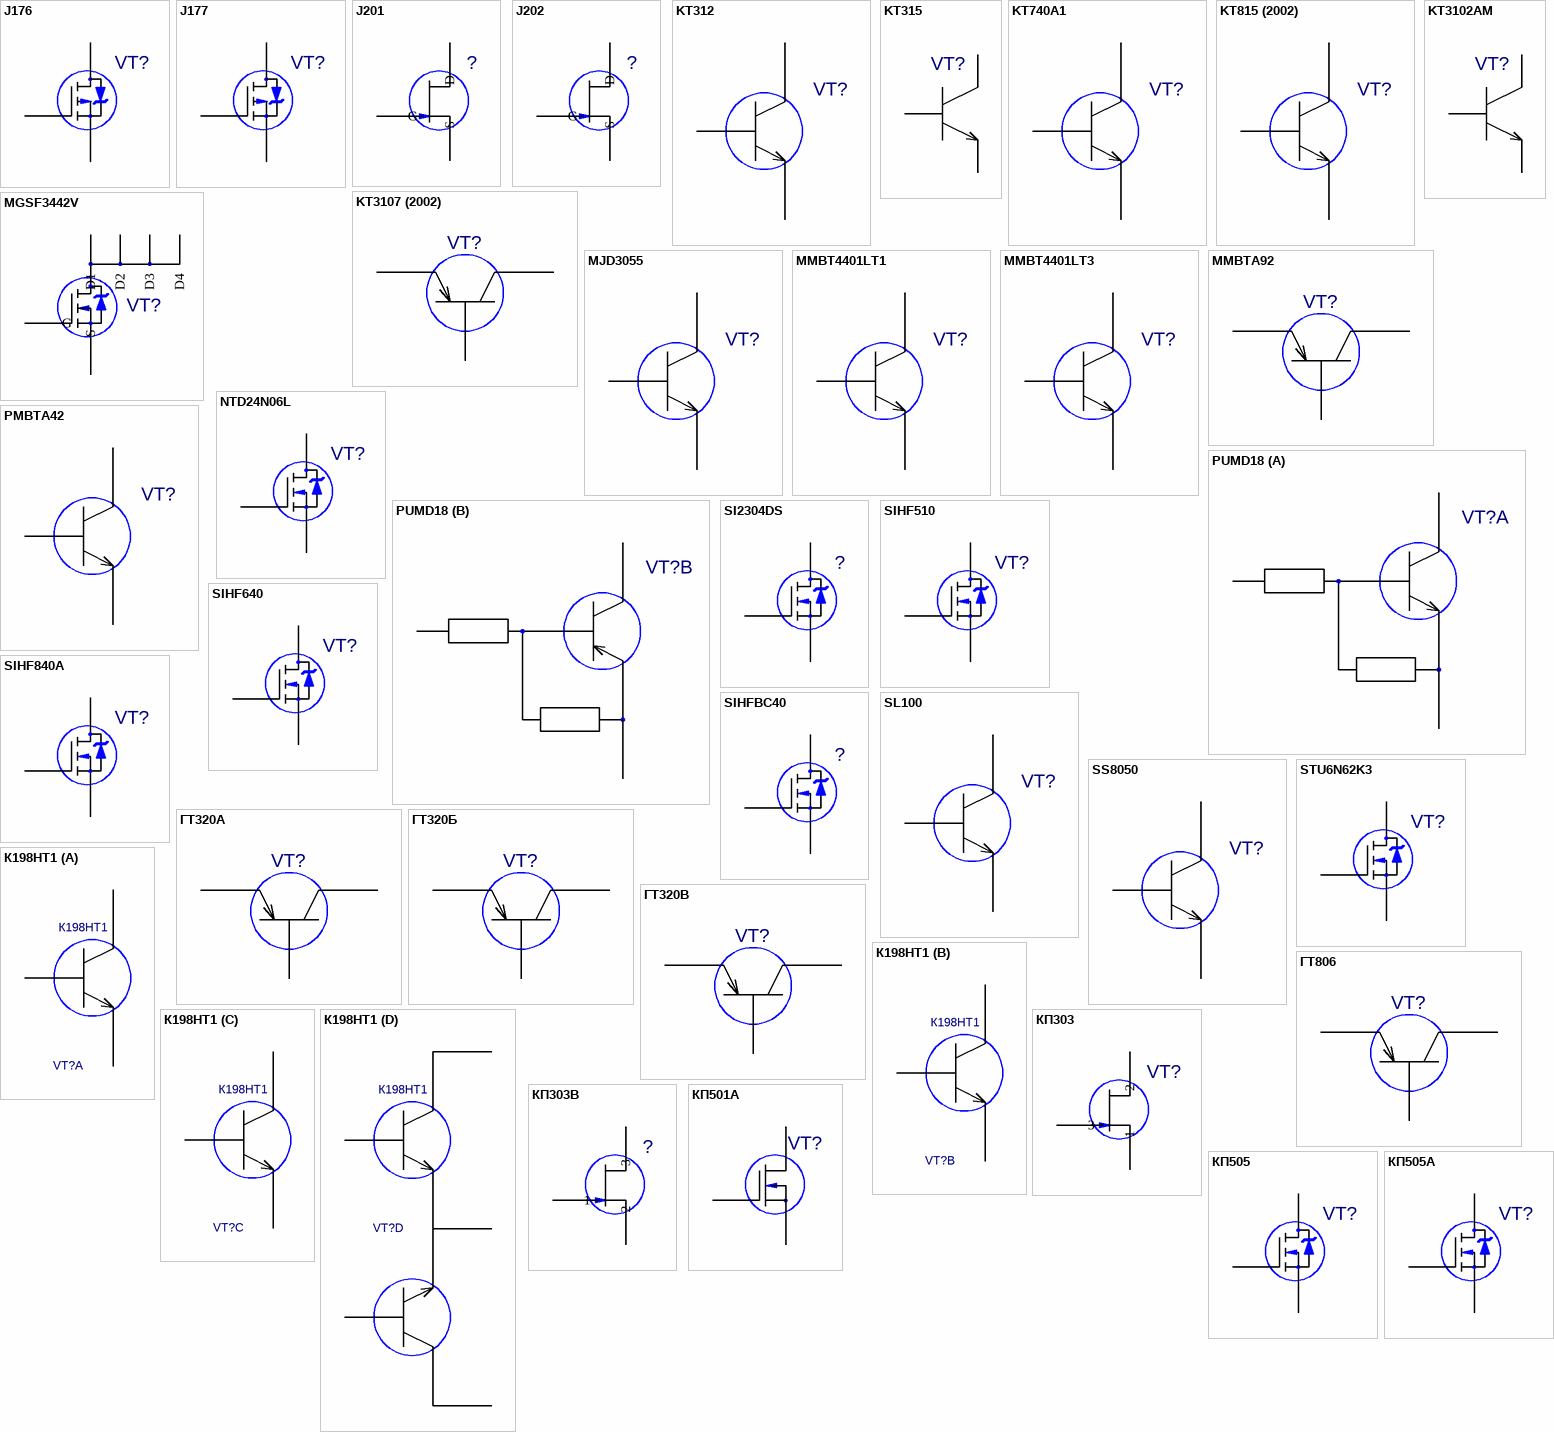
[diagram p5: symbols J176 to КП505А]

## J176
designator VT?  (value not drawn)
Value: {Value}
footprint TO-92-8_J176(Primary)
pins: D 3, G 1, S 2

## J177
designator VT?  (value not drawn)
Value: {Value}
footprint TO-92-8_J177(Primary)
pins: D 3, G 1, S 2

## J201
designator ?  (value not drawn)
Value: {Value}; Author: pcbdesigner.ru
footprint KT26 (TO-92)_J201(Primary)
pins: 1 G, 2 S, 3 D

## J202
designator ?  (value not drawn)
Value: {Value}; Author: pcbdesigner.ru
footprint KT26 (TO-92)_J202(Primary)
pins: 1 G, 2 S, 3 D

## KT312
designator VT?  (value not drawn)
Value: *
footprint КТ312Б_KT312(Primary)
pins: 1 K, 2 B, 3 E

## KT315
designator VT?  (value not drawn)
Value: *
footprint KT13_KT13-1
footprint KT13_KT13-2
footprint KT13_Primary
pins: 1 E, 2 B, 3 K

## KT740A1
designator VT?  (value not drawn)
Value: *
footprint TO-220AB_Primary
footprint TO-220AB_SMD
footprint TO-220AB_Vert
pins: 1 B, 2 K, 3 E

## KT815 (2002)
designator VT?  (value not drawn)
Value: *
footprint KT-27 (2002)
pins: 1 E, 2 K, 3 B

## KT3102AM
designator VT?  (value not drawn)
Value: *
footprint KT26-1
pins: 1 E, 2 B, 3 K

## KT3107 (2002)
designator VT?  (value not drawn)
Value: *
footprint KT26-1 (2002)
pins: 1 K, 2 B, 3 E

## MGSF3442V
designator VT?  (value not drawn)
Value: *
footprint SOT-23-6
pins: 1 D1, 2 D2, 3 G, 4 S, 5 D3, 6 D4

## MJD3055
designator VT?  (value not drawn)
Value: *
footprint DPAK
pins: 1 B, 2 K, 3 E

## MMBT4401LT1
designator VT?  (value not drawn)
Value: *
footprint SOT-23
pins: 1 B, 2 E, 3 K

## MMBT4401LT3
designator VT?  (value not drawn)
Value: *
footprint SOT-23
pins: 1 B, 2 E, 3 K

## MMBTA92
designator VT?  (value not drawn)
Value: *
footprint SOT-23
pins: 1 B, 2 E, 3 K

## NTD24N06L
designator VT?  (value not drawn)
Value: {Value}
footprint DPAK
pins: 1, 2 3, 3 2

## PMBTA42
designator VT?  (value not drawn)
Value: *
footprint SOT-23
pins: 1 B, 2 E, 3 K

## PUMD18
designator VT?  (value not drawn)
Value: *
footprint SOT-363
part A pins: 1 E, 2 B, 6 K
part B pins: 3 K, 4 E, 5 B

## SI2304DS
designator ?  (value not drawn)
Value: {Value}
footprint SOT-23
pins: 1, 2, 3

## SIHF510
designator VT?  (value not drawn)
Value: {Value}
footprint TO-220 WITH TAB
pins: 1, 2 3, 3 2, 4 hidden

## SIHF640
designator VT?  (value not drawn)
Value: {Value}
footprint TO-220AB_Primary
footprint TO-220AB_SMD
footprint TO-220AB_Vert
pins: 1 G, 2 D, 3 S

## SIHF840A
designator VT?  (value not drawn)
Value: {Value}
footprint TO220-AB-VERT
pins: 1, 2 3, 3 2

## SIHFBC40
designator ?  (value not drawn)
Value: {Value}
footprint TO220-AB-VERT
pins: 1, 2 3, 3 2

## SL100
designator VT?  (value not drawn)
Value: *
footprint TO-39_SL100(Primary)
pins: 1 E, 2 K, 3 B

## SS8050
designator VT?  (value not drawn)
Value: *
footprint TO-92-1
pins: 1 E, 2 B, 3 K

## STU6N62K3
designator VT?  (value not drawn)
Value: {Value}
footprint TO-251
pins: 1, 2 3, 3 2, 4 hidden

## ГТ320А
designator VT?  (value not drawn)
Value: *
footprint ГТ320Б
pins: 1 E, 2 K, 3 B

## ГТ320Б
designator VT?  (value not drawn)
Value: *
footprint ГТ320Б
pins: 1 E, 2 K, 3 B

## ГТ320В
designator VT?  (value not drawn)
Value: *
footprint ГТ320Б
pins: 1 E, 2 K, 3 B

## ГТ806
designator VT?  (value not drawn)
Value: *
footprint 806A_ГТ806(Primary)
pins: B, E, K

## К198НТ1
designator VT?
Value: *
footprint 201.14-1
part A pins: 1 E, 2 B, 3 K
part B pins: 4 E, 5 B, 6 K
part C pins: 7 E, 8 B, 9 K
part D pins: 10 K2, 11 B2, 12 E, 13 B1, 14 K1

## КП303
designator VT?  (value not drawn)
Value: {Value}; Author: pcbdesigner.ru
footprint КП303
pins: 1, 2, 3, 4 hidden

## КП303В
designator ?  (value not drawn)
Value: {Value}; Author: pcbdesigner.ru
footprint КП303В_КП303В(Primary)
pins: I 2, pkg hidden, S 3, Z 1

## КП501А
designator VT?  (value not drawn)
Value: {Value}
footprint KT26 (TO-92)
pins: 1 Istok(S), 2 Stok(D), 3 Zatvor(G)

## КП505
designator VT?  (value not drawn)
Value: {Value}
footprint KT26 (TO-92)
pins: 1, 2 3, 3 2

## КП505А
designator VT?  (value not drawn)
Value: {Value}
footprint TO-92-7
pins: 1, 2, 3

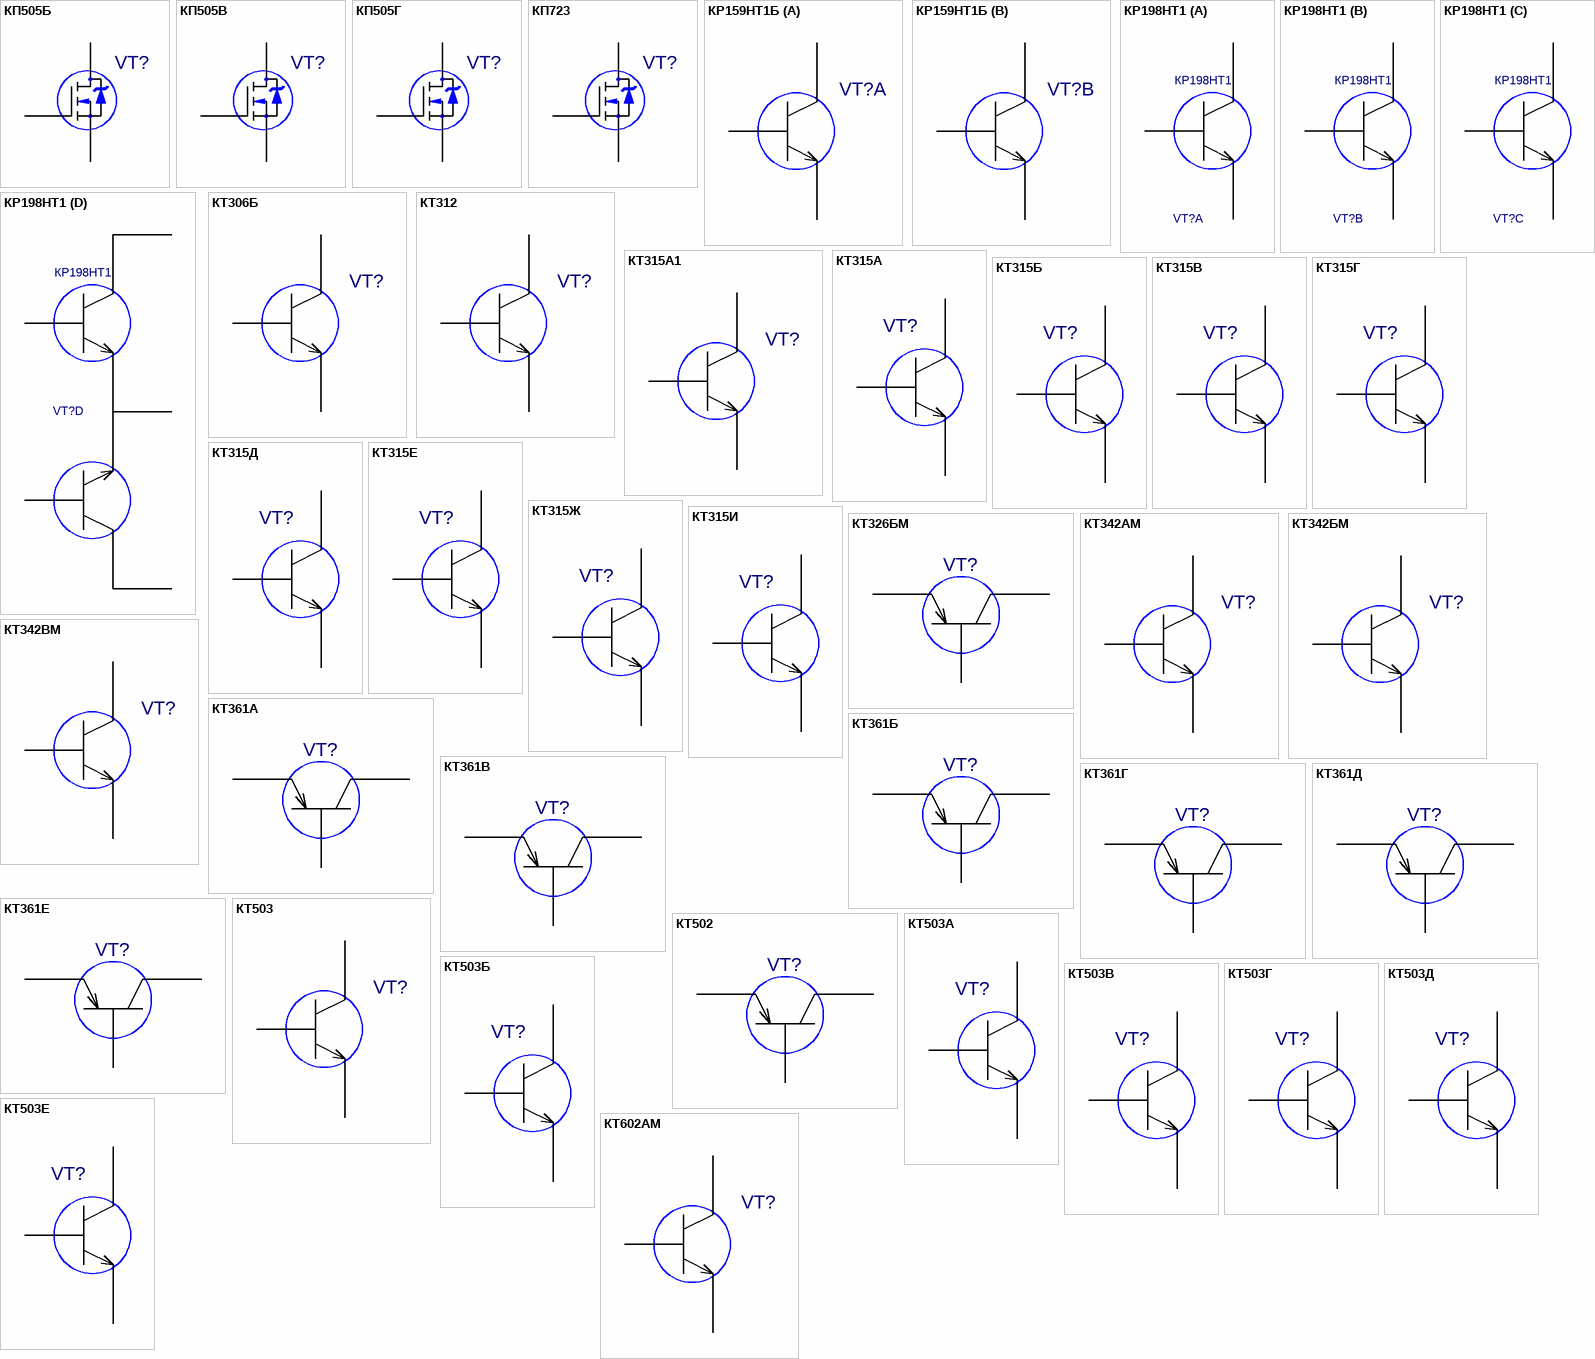
[diagram p6: symbols КП505Б to КТ602АМ]

## КП505Б
designator VT?  (value not drawn)
Value: {Value}
footprint TO-92-7
pins: 1, 2, 3

## КП505В
designator VT?  (value not drawn)
Value: {Value}
footprint TO-92-7
pins: 1, 2, 3

## КП505Г
designator VT?  (value not drawn)
Value: {Value}
footprint TO-92-7
pins: 1, 2, 3

## КП723
designator VT?  (value not drawn)
Value: {Value}
footprint TO220-AB-VERT
pins: 1, 2 3, 3 2

## КР159НТ1Б
designator VT?  (value not drawn)
Value: *
footprint 2101.8-1
pins on every part: 1 hidden, 8 hidden
part A pins: 2 K, 3 B, 4 E
part B pins: 5 E, 6 B, 7 K

## КР198НТ1
designator VT?
Value: *
footprint 201.14-1
part A pins: 1 E, 2 B, 3 K
part B pins: 4 E, 5 B, 6 K
part C pins: 7 E, 8 B, 9 K
part D pins: 10 K2, 11 B2, 12 E, 13 B1, 14 K1

## КТ306Б
designator VT?  (value not drawn)
Value: *
footprint КТЮ-3-1
pins: 1 K, 2 B, 3 E

## КТ312
designator VT?  (value not drawn)
Value: *
footprint КТ312_КТ312(Primary)
pins: B, E, K

## КТ315A1
designator VT?  (value not drawn)
Value: *
footprint TO-92-2
pins: 1 E, 2 K, 3 B

## КТ315А
designator VT?  (value not drawn)
Value: *
footprint KT13_КТ315А(KT13-1)
footprint KT13_КТ315А(KT13-2)
footprint KT13_КТ315А(Primary)
pins: 1 E, 2 B, 3 K

## КТ315Б
designator VT?  (value not drawn)
Value: *
footprint KT13_КТ315Б(KT13-1)
footprint KT13_КТ315Б(KT13-2)
footprint KT13_КТ315Б(Primary)
pins: 1 E, 2 B, 3 K

## КТ315В
designator VT?  (value not drawn)
Value: *
footprint KT13_КТ315В(KT13-1)
footprint KT13_КТ315В(KT13-2)
footprint KT13_КТ315В(Primary)
pins: 1 E, 2 B, 3 K

## КТ315Г
designator VT?  (value not drawn)
Value: *
footprint KT13_КТ315Г(KT13-1)
footprint KT13_КТ315Г(KT13-2)
footprint KT13_КТ315Г(Primary)
pins: 1 E, 2 B, 3 K

## КТ315Д
designator VT?  (value not drawn)
Value: *
footprint KT13_КТ315Д(KT13-1)
footprint KT13_КТ315Д(KT13-2)
footprint KT13_КТ315Д(Primary)
pins: 1 E, 2 B, 3 K

## КТ315Е
designator VT?  (value not drawn)
Value: *
footprint KT13_КТ315Е(KT13-1)
footprint KT13_КТ315Е(KT13-2)
footprint KT13_КТ315Е(Primary)
pins: 1 E, 2 B, 3 K

## КТ315Ж
designator VT?  (value not drawn)
Value: *
footprint KT13_КТ315Ж(KT13-1)
footprint KT13_КТ315Ж(KT13-2)
footprint KT13_КТ315Ж(Primary)
pins: 1 E, 2 B, 3 K

## КТ315И
designator VT?  (value not drawn)
Value: *
footprint KT13_КТ315И(KT13-1)
footprint KT13_КТ315И(KT13-2)
footprint KT13_КТ315И(Primary)
pins: 1 E, 2 B, 3 K

## КТ326БМ
designator VT?  (value not drawn)
Value: *
footprint KT26 (TO-92)
pins: 1 E, 2 B, 3 K

## КТ342АМ
designator VT?  (value not drawn)
Value: *
footprint KT26 (TO-92)
pins: 1 E, 2 B, 3 K

## КТ342БМ
designator VT?  (value not drawn)
Value: *
footprint KT26 (TO-92)
pins: 1 E, 2 B, 3 K

## КТ342ВМ
designator VT?  (value not drawn)
Value: *
footprint KT26 (TO-92)
pins: 1 E, 2 B, 3 K

## КТ361А
designator VT?  (value not drawn)
Value: *
footprint KT13_КТ361А(KT13-1)
footprint KT13_КТ361А(KT13-2)
footprint KT13_КТ361А(Primary)
pins: 1 E, 2 B, 3 K

## КТ361Б
designator VT?  (value not drawn)
Value: *
footprint KT13_КТ361Б(KT13-1)
footprint KT13_КТ361Б(KT13-2)
footprint KT13_КТ361Б(Primary)
pins: 1 E, 2 B, 3 K

## КТ361В
designator VT?  (value not drawn)
Value: *
footprint KT13_КТ361В(KT13-1)
footprint KT13_КТ361В(KT13-2)
footprint KT13_КТ361В(Primary)
pins: 1 E, 2 B, 3 K

## КТ361Г
designator VT?  (value not drawn)
Value: *
footprint KT13_КТ361Г(KT13-1)
footprint KT13_КТ361Г(KT13-2)
footprint KT13_КТ361Г(Primary)
pins: 1 E, 2 B, 3 K

## КТ361Д
designator VT?  (value not drawn)
Value: *
footprint KT13_КТ361Д(KT13-1)
footprint KT13_КТ361Д(KT13-2)
footprint KT13_КТ361Д(Primary)
pins: 1 E, 2 B, 3 K

## КТ361Е
designator VT?  (value not drawn)
Value: *
footprint KT13_КТ361Е(KT13-1)
footprint KT13_КТ361Е(KT13-2)
footprint KT13_КТ361Е(Primary)
pins: 1 E, 2 B, 3 K

## КТ502
designator VT?  (value not drawn)
Value: *
footprint KT26 (TO-92)
pins: 1 E, 2 B, 3 K

## КТ503
designator VT?  (value not drawn)
Value: *
footprint KT26 (TO-92)
pins: 1 E, 2 B, 3 K

## КТ503А
designator VT?  (value not drawn)
Value: *
footprint KT26 (TO-92)
pins: 1 E, 2 B, 3 K

## КТ503Б
designator VT?  (value not drawn)
Value: *
footprint KT26 (TO-92)
pins: 1 E, 2 B, 3 K

## КТ503В
designator VT?  (value not drawn)
Value: *
footprint KT26 (TO-92)
pins: 1 E, 2 B, 3 K

## КТ503Г
designator VT?  (value not drawn)
Value: *
footprint KT26 (TO-92)
pins: 1 E, 2 B, 3 K

## КТ503Д
designator VT?  (value not drawn)
Value: *
footprint KT26 (TO-92)
pins: 1 E, 2 B, 3 K

## КТ503Е
designator VT?  (value not drawn)
Value: *
footprint KT26 (TO-92)
pins: 1 E, 2 B, 3 K

## КТ602АМ
designator VT?  (value not drawn)
Value: *
footprint TO-225AA_КТ602АМ(Primary)
pins: B E, E B, K

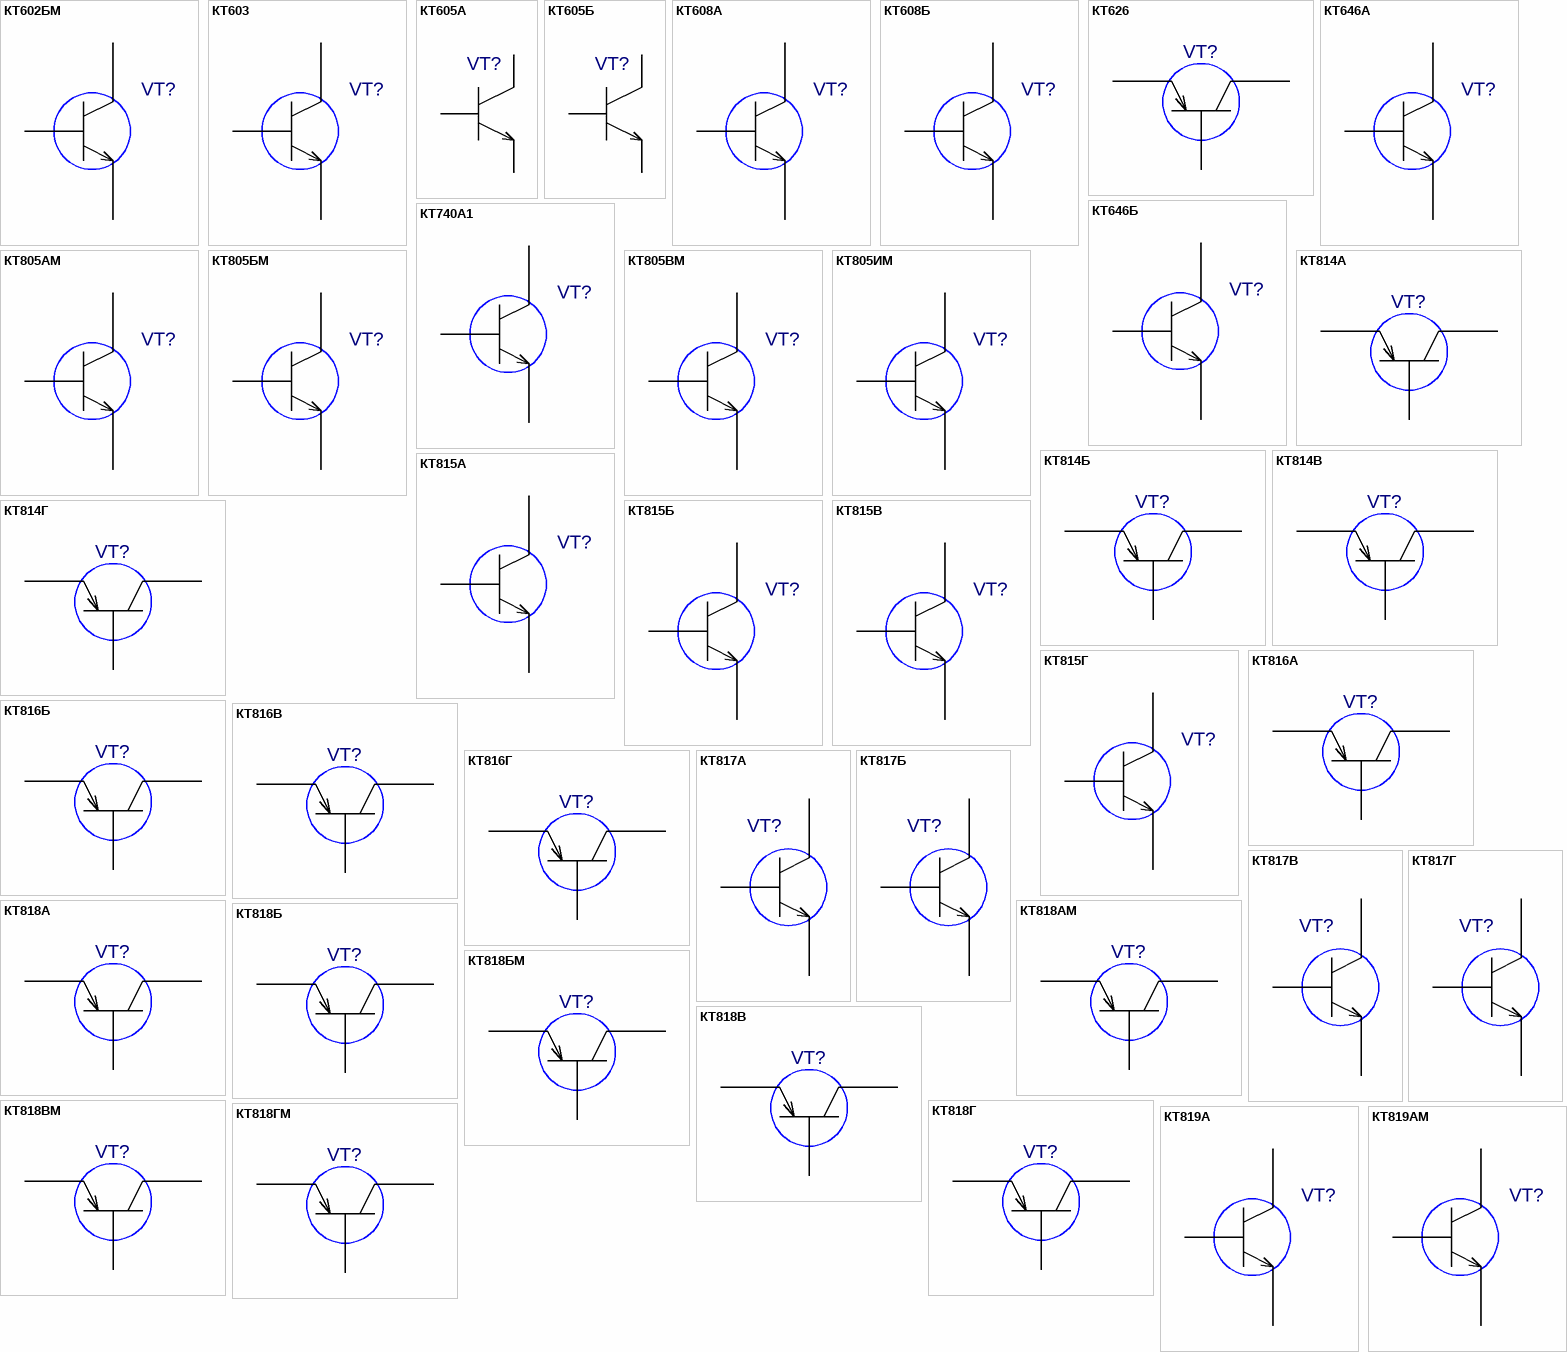
[diagram p7: symbols КТ602БМ to КТ819АМ]

## КТ602БМ
designator VT?  (value not drawn)
Value: *
footprint TO-225AA_КТ602БМ(Primary)
pins: B E, E B, K

## КТ603
designator VT?  (value not drawn)
Value: *
footprint КТ603
pins: 1 E, 2 K, 3 B

## КТ605А
designator VT?  (value not drawn)
Value: *
footprint КТ605
pins: 1 E, 2 K, 3 B

## КТ605Б
designator VT?  (value not drawn)
Value: *
footprint КТ605
pins: 1 E, 2 K, 3 B

## КТ608А
designator VT?  (value not drawn)
Value: *
footprint КТ605_КТ608А(Primary)
pins: 1 B, 2 E, 3 K

## КТ608Б
designator VT?  (value not drawn)
Value: *
footprint КТ605_КТ608Б(Primary)
pins: 1 B, 2 E, 3 K

## КТ626
designator VT?  (value not drawn)
Value: *
footprint KT-27_KT27A
footprint KT-27_KT27R
footprint KT-27_KT27R1
footprint KT-27_Primary
pins: 1 B, 2 K, 3 E

## КТ646А
designator VT?  (value not drawn)
Value: *
footprint KT-28_КТ646А(Primary)
pins: 2 hidden, B, E, K

## КТ646Б
designator VT?  (value not drawn)
Value: *
footprint KT-28_КТ646Б(Primary)
pins: 2 hidden, B, E, K

## КТ740А1
designator VT?  (value not drawn)
Value: *
footprint TO-220AB_Primary
footprint TO-220AB_SMD
footprint TO-220AB_Vert
pins: 1 B, 2 K, 3 E

## КТ805АМ
designator VT?  (value not drawn)
Value: *
footprint TO-220 (V)
pins: 1 E, 2 K, 3 B

## КТ805БМ
designator VT?  (value not drawn)
Value: *
footprint TO-220 (V)
pins: 1 E, 2 K, 3 B

## КТ805ВМ
designator VT?  (value not drawn)
Value: *
footprint TO-220 (V)
pins: 1 E, 2 K, 3 B

## КТ805ИМ
designator VT?  (value not drawn)
Value: *
footprint TO-220 (V)
pins: 1 E, 2 K, 3 B

## КТ814А
designator VT?  (value not drawn)
Value: *
footprint KT-27_KT27A
footprint KT-27_KT27R
footprint KT-27_KT27R1
footprint KT-27_Primary
pins: 1 E, 2 K, 3 B

## КТ814Б
designator VT?  (value not drawn)
Value: *
footprint KT-27_KT27A
footprint KT-27_KT27R
footprint KT-27_KT27R1
footprint KT-27_Primary
pins: 1 E, 2 K, 3 B

## КТ814В
designator VT?  (value not drawn)
Value: *
footprint KT-27_KT27A
footprint KT-27_KT27R
footprint KT-27_KT27R1
footprint KT-27_Primary
pins: 1 E, 2 K, 3 B

## КТ814Г
designator VT?  (value not drawn)
Value: *
footprint KT-27_KT27A
footprint KT-27_KT27R
footprint KT-27_KT27R1
footprint KT-27_Primary
pins: 1 E, 2 K, 3 B

## КТ815А
designator VT?  (value not drawn)
Value: *
footprint KT-27_KT27A
footprint KT-27_KT27R
footprint KT-27_KT27R1
footprint KT-27_Primary
pins: 1 E, 2 K, 3 B

## КТ815Б
designator VT?  (value not drawn)
Value: *
footprint KT-27_KT27A
footprint KT-27_KT27R
footprint KT-27_KT27R1
footprint KT-27_Primary
pins: 1 E, 2 K, 3 B

## КТ815В
designator VT?  (value not drawn)
Value: *
footprint KT-27_KT27A
footprint KT-27_KT27R
footprint KT-27_KT27R1
footprint KT-27_Primary
pins: 1 E, 2 K, 3 B

## КТ815Г
designator VT?  (value not drawn)
Value: *
footprint KT-27_KT27A
footprint KT-27_KT27R
footprint KT-27_KT27R1
footprint KT-27_Primary
pins: 1 E, 2 K, 3 B

## КТ816А
designator VT?  (value not drawn)
Value: *
footprint KT-27_КТ816А(KT27A)
footprint KT-27_КТ816А(KT27R)
footprint KT-27_КТ816А(KT27R1)
footprint KT-27_КТ816А(Primary)
pins: B, E, K

## КТ816Б
designator VT?  (value not drawn)
Value: *
footprint KT-27_КТ816Б(KT27A)
footprint KT-27_КТ816Б(KT27R)
footprint KT-27_КТ816Б(KT27R1)
footprint KT-27_КТ816Б(Primary)
pins: B, E, K

## КТ816В
designator VT?  (value not drawn)
Value: *
footprint KT-27_КТ816В(KT27A)
footprint KT-27_КТ816В(KT27R)
footprint KT-27_КТ816В(KT27R1)
footprint KT-27_КТ816В(Primary)
pins: B, E, K

## КТ816Г
designator VT?  (value not drawn)
Value: *
footprint KT-27_КТ816Г(KT27A)
footprint KT-27_КТ816Г(KT27R)
footprint KT-27_КТ816Г(KT27R1)
footprint KT-27_КТ816Г(Primary)
pins: B, E, K

## КТ817А
designator VT?  (value not drawn)
Value: *
footprint KT-27_KT27A
footprint KT-27_KT27R
footprint KT-27_KT27R1
footprint KT-27_Primary
pins: 1 E, 2 K, 3 B

## КТ817Б
designator VT?  (value not drawn)
Value: *
footprint KT-27_KT27A
footprint KT-27_KT27R
footprint KT-27_KT27R1
footprint KT-27_Primary
pins: 1 E, 2 K, 3 B

## КТ817В
designator VT?  (value not drawn)
Value: *
footprint KT-27_KT27A
footprint KT-27_KT27R
footprint KT-27_KT27R1
footprint KT-27_Primary
pins: 1 E, 2 K, 3 B

## КТ817Г
designator VT?  (value not drawn)
Value: *
footprint KT-27_KT27A
footprint KT-27_KT27R
footprint KT-27_KT27R1
footprint KT-27_Primary
pins: 1 E, 2 K, 3 B

## КТ818А
designator VT?  (value not drawn)
Value: *
footprint KT-28_КТ818А(Primary)
pins: 1 E, 2 B, 3 K, 4 hidden

## КТ818АМ
designator VT?  (value not drawn)
Value: *
footprint KT-9
pins: 1 E, 2 B, 3 K, 4 hidden

## КТ818Б
designator VT?  (value not drawn)
Value: *
footprint KT-28_КТ818Б(Primary)
pins: 1 E, 2 B, 3 K, 4 hidden

## КТ818БМ
designator VT?  (value not drawn)
Value: *
footprint KT-9
pins: 1 E, 2 B, 3 K, 4 hidden

## КТ818В
designator VT?  (value not drawn)
Value: *
footprint KT-28_КТ818В(Primary)
pins: 1 E, 2 B, 3 K, 4 hidden

## КТ818ВМ
designator VT?  (value not drawn)
Value: *
footprint KT-9
pins: 1 E, 2 B, 3 K, 4 hidden

## КТ818Г
designator VT?  (value not drawn)
Value: *
footprint KT-28_КТ818Г(Primary)
pins: 1 E, 2 B, 3 K, 4 hidden

## КТ818ГМ
designator VT?  (value not drawn)
Value: *
footprint KT-9
pins: 1 E, 2 B, 3 K, 4 hidden

## КТ819А
designator VT?  (value not drawn)
Value: *
footprint KT-28_КТ819А(Primary)
pins: 2 hidden, B, E, K

## КТ819АМ
designator VT?  (value not drawn)
Value: *
footprint KT-9_КТ819АМ(Primary)
pins: 4 hidden, B, E, K

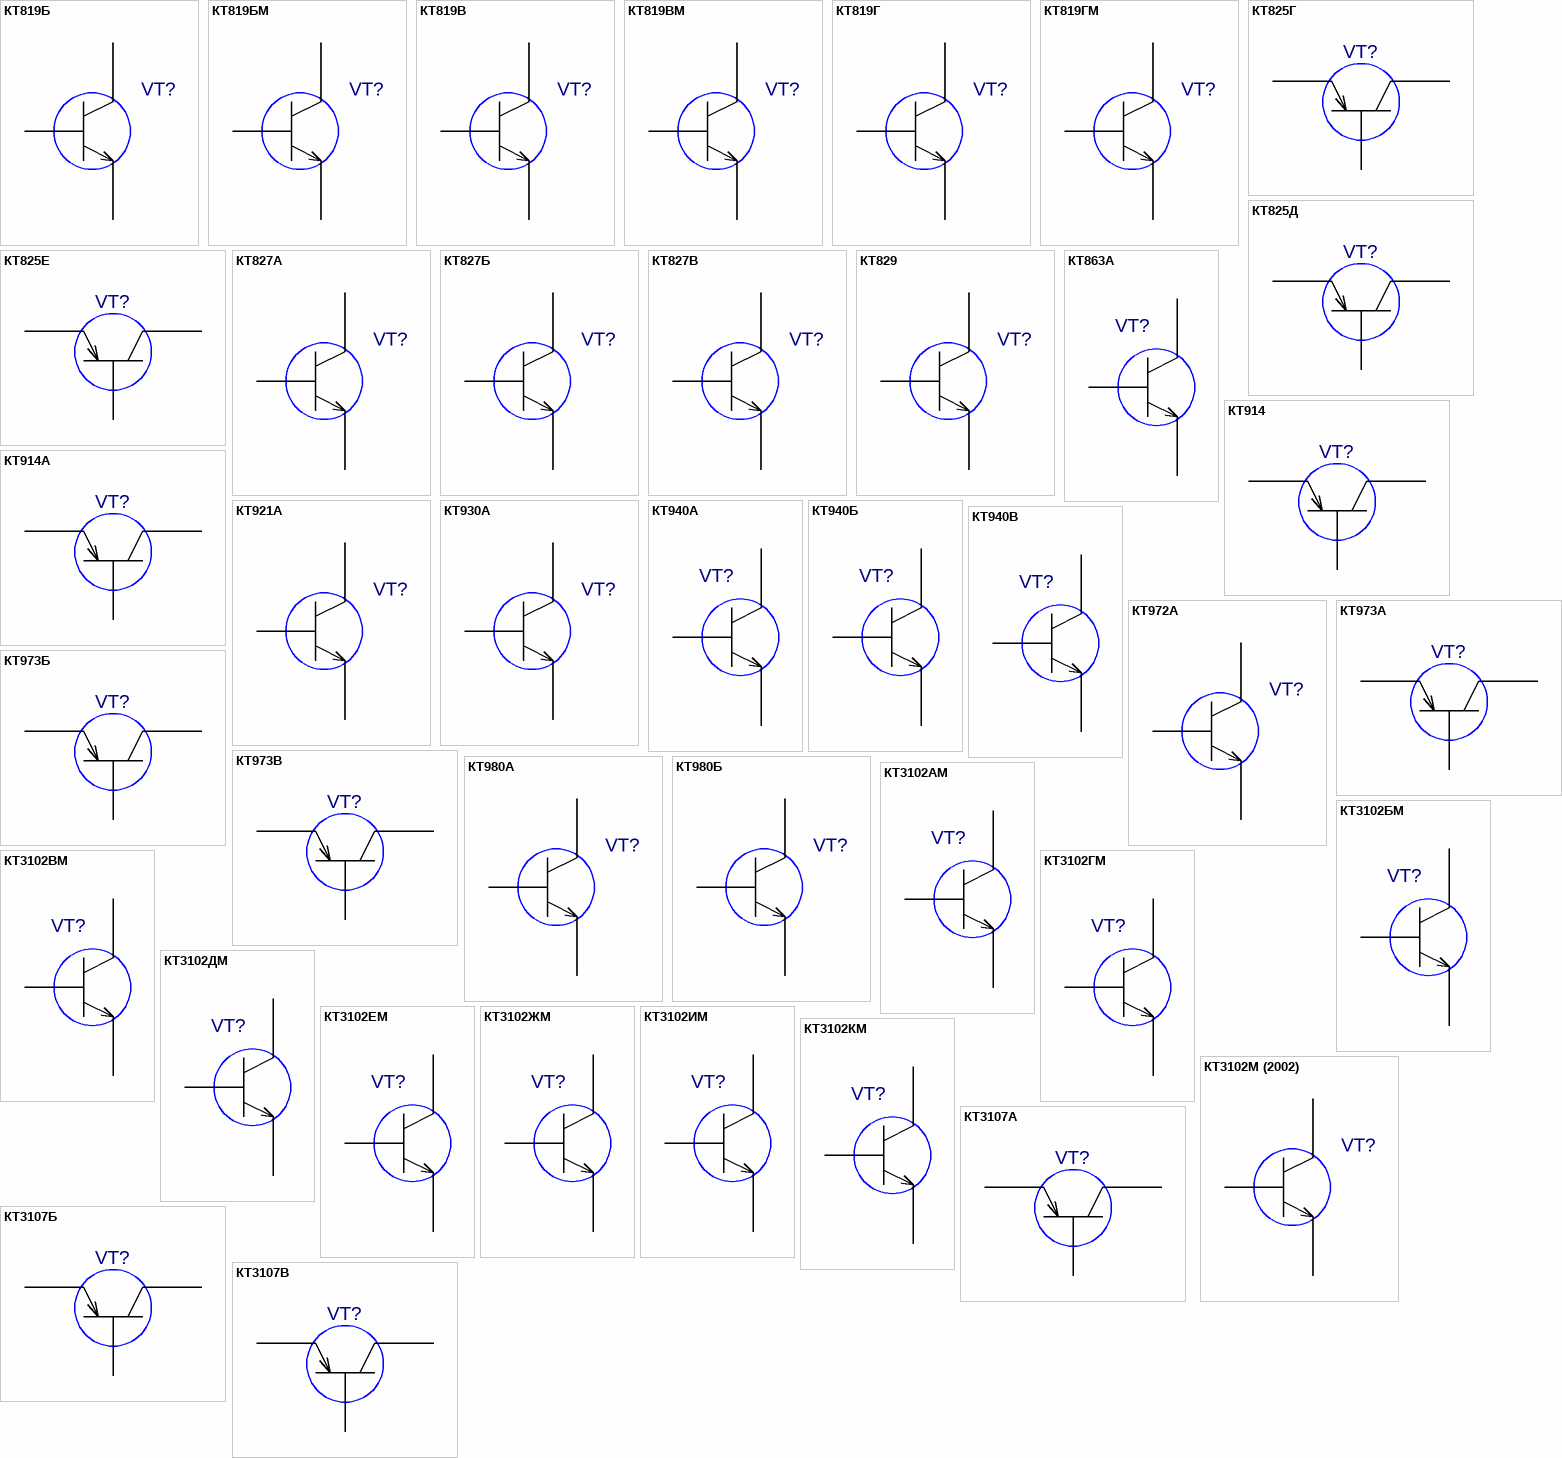
[diagram p8: symbols КТ819Б to КТ3107В]

## КТ819Б
designator VT?  (value not drawn)
Value: *
footprint KT-28_КТ819Б(Primary)
pins: 2 hidden, B, E, K

## КТ819БМ
designator VT?  (value not drawn)
Value: *
footprint KT-9_КТ819БМ(Primary)
pins: 4 hidden, B, E, K

## КТ819В
designator VT?  (value not drawn)
Value: *
footprint KT-28_КТ819В(Primary)
pins: 2 hidden, B, E, K

## КТ819ВМ
designator VT?  (value not drawn)
Value: *
footprint KT-9_КТ819ВМ(Primary)
pins: 4 hidden, B, E, K

## КТ819Г
designator VT?  (value not drawn)
Value: *
footprint KT-28_КТ819Г(Primary)
pins: 2 hidden, B, E, K

## КТ819ГМ
designator VT?  (value not drawn)
Value: *
footprint KT-9_КТ819ГМ(Primary)
pins: 4 hidden, B, E, K

## КТ825Г
designator VT?  (value not drawn)
Value: *
footprint KT-9_КТ825Г(Primary)
pins: 4 hidden, B, E, K

## КТ825Д
designator VT?  (value not drawn)
Value: *
footprint KT-9_КТ825Д(Primary)
pins: 4 hidden, B, E, K

## КТ825Е
designator VT?  (value not drawn)
Value: *
footprint KT-9_КТ825Е(Primary)
pins: 4 hidden, B, E, K

## КТ827А
designator VT?  (value not drawn)
Value: *
footprint KT-9_КТ827А(Primary)
pins: 4 hidden, B, E, K

## КТ827Б
designator VT?  (value not drawn)
Value: *
footprint KT-9_КТ827Б(Primary)
pins: 4 hidden, B, E, K

## КТ827В
designator VT?  (value not drawn)
Value: *
footprint KT-9_КТ827В(Primary)
pins: 4 hidden, B, E, K

## КТ829
designator VT?  (value not drawn)
Value: *
footprint TO220-AB-VERT_КТ829(Primary)
pins: 1 E, 2 B, 3 K

## КТ863А
designator VT?  (value not drawn)
Value: *
footprint KT-28_1_КТ863А(Primary)
pins: 4 hidden, B, E, K

## КТ914
designator VT?  (value not drawn)
Value: *
footprint КТ-4-2
pins: 1 B, 2 E, 3 K

## КТ914А
designator VT?  (value not drawn)
Value: *
footprint KT921A_КТ914А(Primary)
pins: B, E, K

## КТ921А
designator VT?  (value not drawn)
Value: *
footprint KT921A_КТ921А(Primary)
pins: B, E, K

## КТ930А
designator VT?  (value not drawn)
Value: *
footprint KT32_КТ930А(Primary)
pins: 7 hidden, 8 hidden, B, E1 E, E2 hidden, E3 hidden, E4 hidden, K

## КТ940А
designator VT?  (value not drawn)
Value: *
footprint KT-27_KT27A
footprint KT-27_KT27R
footprint KT-27_KT27R1
footprint KT-27_Primary
pins: 1 E, 2 K, 3 B

## КТ940Б
designator VT?  (value not drawn)
Value: *
footprint KT-27_KT27A
footprint KT-27_KT27R
footprint KT-27_KT27R1
footprint KT-27_Primary
pins: 1 E, 2 K, 3 B

## КТ940В
designator VT?  (value not drawn)
Value: *
footprint KT-27_KT27A
footprint KT-27_KT27R
footprint KT-27_KT27R1
footprint KT-27_Primary
pins: 1 E, 2 K, 3 B

## КТ972А
designator VT?  (value not drawn)
Value: *
footprint KT-27_KT27A
footprint KT-27_KT27R
footprint KT-27_KT27R1
footprint KT-27_Primary
pins: 1 E, 2 K, 3 B

## КТ973А
designator VT?  (value not drawn)
Value: *
footprint KT-27_KT27A
footprint KT-27_KT27R
footprint KT-27_KT27R1
footprint KT-27_Primary
pins: 1 E, 2 K, 3 B

## КТ973Б
designator VT?  (value not drawn)
Value: *
footprint KT-27_KT27A
footprint KT-27_KT27R
footprint KT-27_KT27R1
footprint KT-27_Primary
pins: 1 E, 2 K, 3 B

## КТ973В
designator VT?  (value not drawn)
Value: *
footprint KT-27_KT27A
footprint KT-27_KT27R
footprint KT-27_KT27R1
footprint KT-27_Primary
pins: 1 E, 2 K, 3 B

## КТ980А
designator VT?  (value not drawn)
Value: *
footprint KT-16-2_КТ980А(Primary)
pins: 5 hidden, B, E1 E, E2 hidden, K

## КТ980Б
designator VT?  (value not drawn)
Value: *
footprint KT-16-2_КТ980Б(Primary)
pins: 5 hidden, B, E1 E, E2 hidden, K

## КТ3102АМ
designator VT?  (value not drawn)
Value: *
footprint KT26-1
pins: 1 E, 2 B, 3 K

## КТ3102БМ
designator VT?  (value not drawn)
Value: *
footprint KT26-1
pins: 1 E, 2 B, 3 K

## КТ3102ВМ
designator VT?  (value not drawn)
Value: *
footprint KT26-1
pins: 1 E, 2 B, 3 K

## КТ3102ГМ
designator VT?  (value not drawn)
Value: *
footprint KT26-1
pins: 1 E, 2 B, 3 K

## КТ3102ДМ
designator VT?  (value not drawn)
Value: *
footprint KT26-1
pins: 1 E, 2 B, 3 K

## КТ3102ЕМ
designator VT?  (value not drawn)
Value: *
footprint KT26-1
pins: 1 E, 2 B, 3 K

## КТ3102ЖМ
designator VT?  (value not drawn)
Value: *
footprint KT26-1
pins: 1 E, 2 B, 3 K

## КТ3102ИМ
designator VT?  (value not drawn)
Value: *
footprint KT26-1
pins: 1 E, 2 B, 3 K

## КТ3102КМ
designator VT?  (value not drawn)
Value: *
footprint KT26-1
pins: 1 E, 2 B, 3 K

## КТ3102М (2002)
designator VT?  (value not drawn)
Value: *
footprint KT26-1 (2002)
pins: 1 K, 2 B, 3 E

## КТ3107А
designator VT?  (value not drawn)
Value: *
footprint TO-92-4_КТ3107А(Primary)
pins: B, C, E

## КТ3107Б
designator VT?  (value not drawn)
Value: *
footprint TO-92-4_КТ3107Б(Primary)
pins: B, C, E

## КТ3107В
designator VT?  (value not drawn)
Value: *
footprint TO-92-4_КТ3107В(Primary)
pins: B, C, E

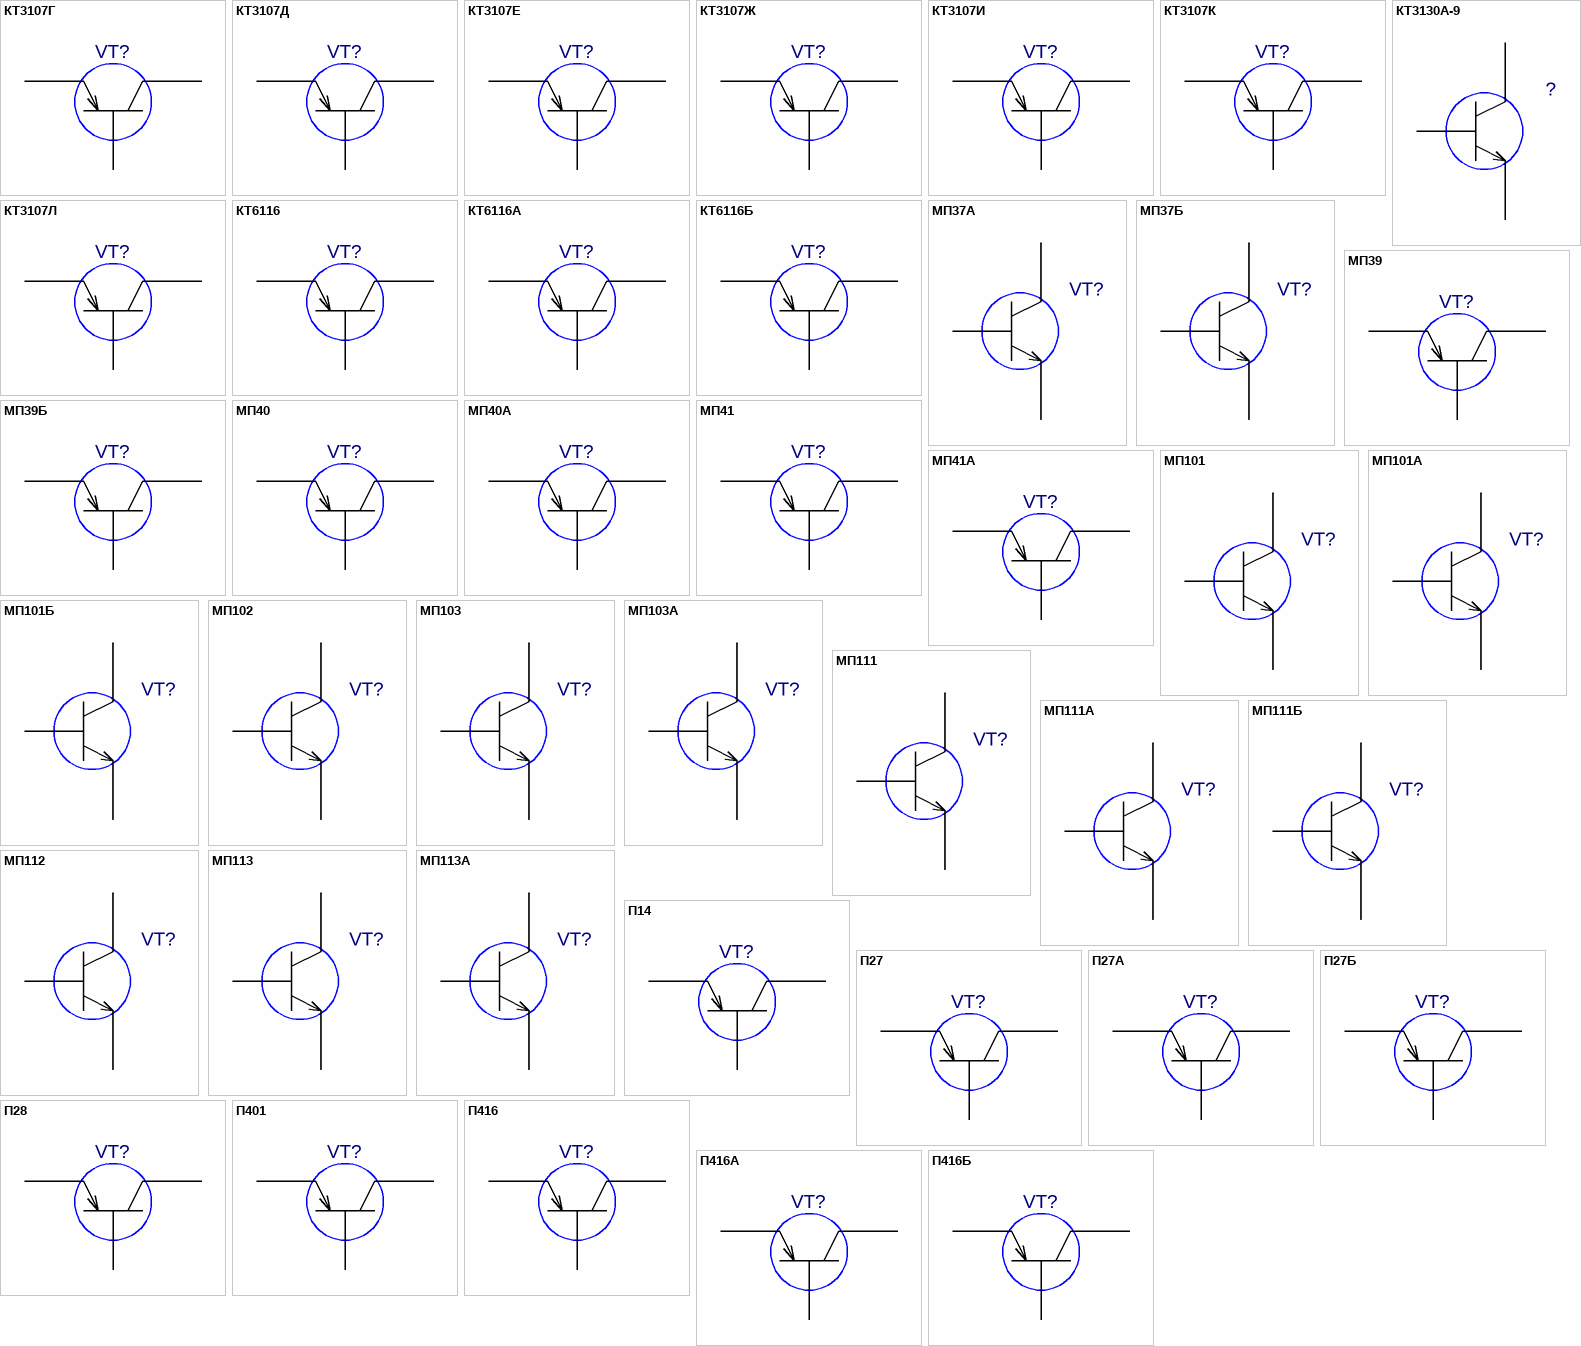
[diagram p9: symbols КТ3107Г to П416Б]

## КТ3107Г
designator VT?  (value not drawn)
Value: *
footprint TO-92-4_КТ3107Г(Primary)
pins: B, C, E

## КТ3107Д
designator VT?  (value not drawn)
Value: *
footprint TO-92-4_КТ3107Д(Primary)
pins: B, C, E

## КТ3107Е
designator VT?  (value not drawn)
Value: *
footprint TO-92-4_КТ3107Е(Primary)
pins: B, C, E

## КТ3107Ж
designator VT?  (value not drawn)
Value: *
footprint TO-92-4_КТ3107Ж(Primary)
pins: B, C, E

## КТ3107И
designator VT?  (value not drawn)
Value: *
footprint TO-92-4_КТ3107И(Primary)
pins: B, C, E

## КТ3107К
designator VT?  (value not drawn)
Value: *
footprint TO-92-4_КТ3107К(Primary)
pins: B, C, E

## КТ3107Л
designator VT?  (value not drawn)
Value: *
footprint TO-92-4_КТ3107Л(Primary)
pins: B, C, E

## КТ3130А-9
designator ?  (value not drawn)
Value: *
footprint SOT-23
pins: 1 B, 2 E, 3 K

## КТ6116
designator VT?  (value not drawn)
Value: *
footprint KT26 (TO-92)
pins: 1 K, 2 B, 3 E

## КТ6116А
designator VT?  (value not drawn)
Value: *
footprint KT26 (TO-92)
pins: 1 K, 2 B, 3 E

## КТ6116Б
designator VT?  (value not drawn)
Value: *
footprint KT26 (TO-92)
pins: 1 K, 2 B, 3 E

## МП37А
designator VT?  (value not drawn)
Value: *
footprint МП37_МП37А(Primary)
pins: 1 K, 2 E, 3 B

## МП37Б
designator VT?  (value not drawn)
Value: *
footprint МП37_МП37Б(Primary)
pins: 1 K, 2 E, 3 B

## МП39
designator VT?  (value not drawn)
Value: *
footprint П27_МП39(Primary)
pins: B, E, K

## МП39Б
designator VT?  (value not drawn)
Value: *
footprint П27_МП39Б(Primary)
pins: B, E, K

## МП40
designator VT?  (value not drawn)
Value: *
footprint П27_МП40(Primary)
pins: B, E, K

## МП40А
designator VT?  (value not drawn)
Value: *
footprint П27_МП40А(Primary)
pins: B, E, K

## МП41
designator VT?  (value not drawn)
Value: *
footprint П27_МП41(Primary)
pins: B, E, K

## МП41А
designator VT?  (value not drawn)
Value: *
footprint П27_МП41А(Primary)
pins: B, E, K

## МП101
designator VT?  (value not drawn)
Value: *
footprint МП101
pins: 1 E, 2 B, 3 K

## МП101А
designator VT?  (value not drawn)
Value: *
footprint МП101
pins: 1 E, 2 B, 3 K

## МП101Б
designator VT?  (value not drawn)
Value: *
footprint МП101
pins: 1 E, 2 B, 3 K

## МП102
designator VT?  (value not drawn)
Value: *
footprint МП101
pins: 1 E, 2 B, 3 K

## МП103
designator VT?  (value not drawn)
Value: *
footprint МП101
pins: 1 E, 2 B, 3 K

## МП103А
designator VT?  (value not drawn)
Value: *
footprint МП101
pins: 1 E, 2 B, 3 K

## МП111
designator VT?  (value not drawn)
Value: *
footprint МП101
pins: 1 E, 2 B, 3 K

## МП111А
designator VT?  (value not drawn)
Value: *
footprint МП101
pins: 1 E, 2 B, 3 K

## МП111Б
designator VT?  (value not drawn)
Value: *
footprint МП101
pins: 1 E, 2 B, 3 K

## МП112
designator VT?  (value not drawn)
Value: *
footprint МП101
pins: 1 E, 2 B, 3 K

## МП113
designator VT?  (value not drawn)
Value: *
footprint МП101
pins: 1 E, 2 B, 3 K

## МП113А
designator VT?  (value not drawn)
Value: *
footprint МП101
pins: 1 E, 2 B, 3 K

## П14
designator VT?  (value not drawn)
Value: *
footprint П14_П14(Primary)
pins: B, E, K

## П27
designator VT?  (value not drawn)
Value: *
footprint П27_П27(Primary)
pins: B, E, K

## П27А
designator VT?  (value not drawn)
Value: *
footprint П27_П27А(Primary)
pins: B, E, K

## П27Б
designator VT?  (value not drawn)
Value: *
footprint П27_П27Б(Primary)
pins: B, E, K

## П28
designator VT?  (value not drawn)
Value: *
footprint П28_П28(Primary)
pins: B, E, K

## П401
designator VT?  (value not drawn)
Value: *
footprint П401_П401(Primary)
pins: B, E, K

## П416
designator VT?  (value not drawn)
Value: *
footprint П27_П416(Primary)
pins: B, E, K

## П416А
designator VT?  (value not drawn)
Value: *
footprint П27_П416А(Primary)
pins: B, E, K

## П416Б
designator VT?  (value not drawn)
Value: *
footprint П27_П416Б(Primary)
pins: B, E, K